# Altium schematic symbol library ICs_Control.SchLib: 37 symbols (part 5 of 6)
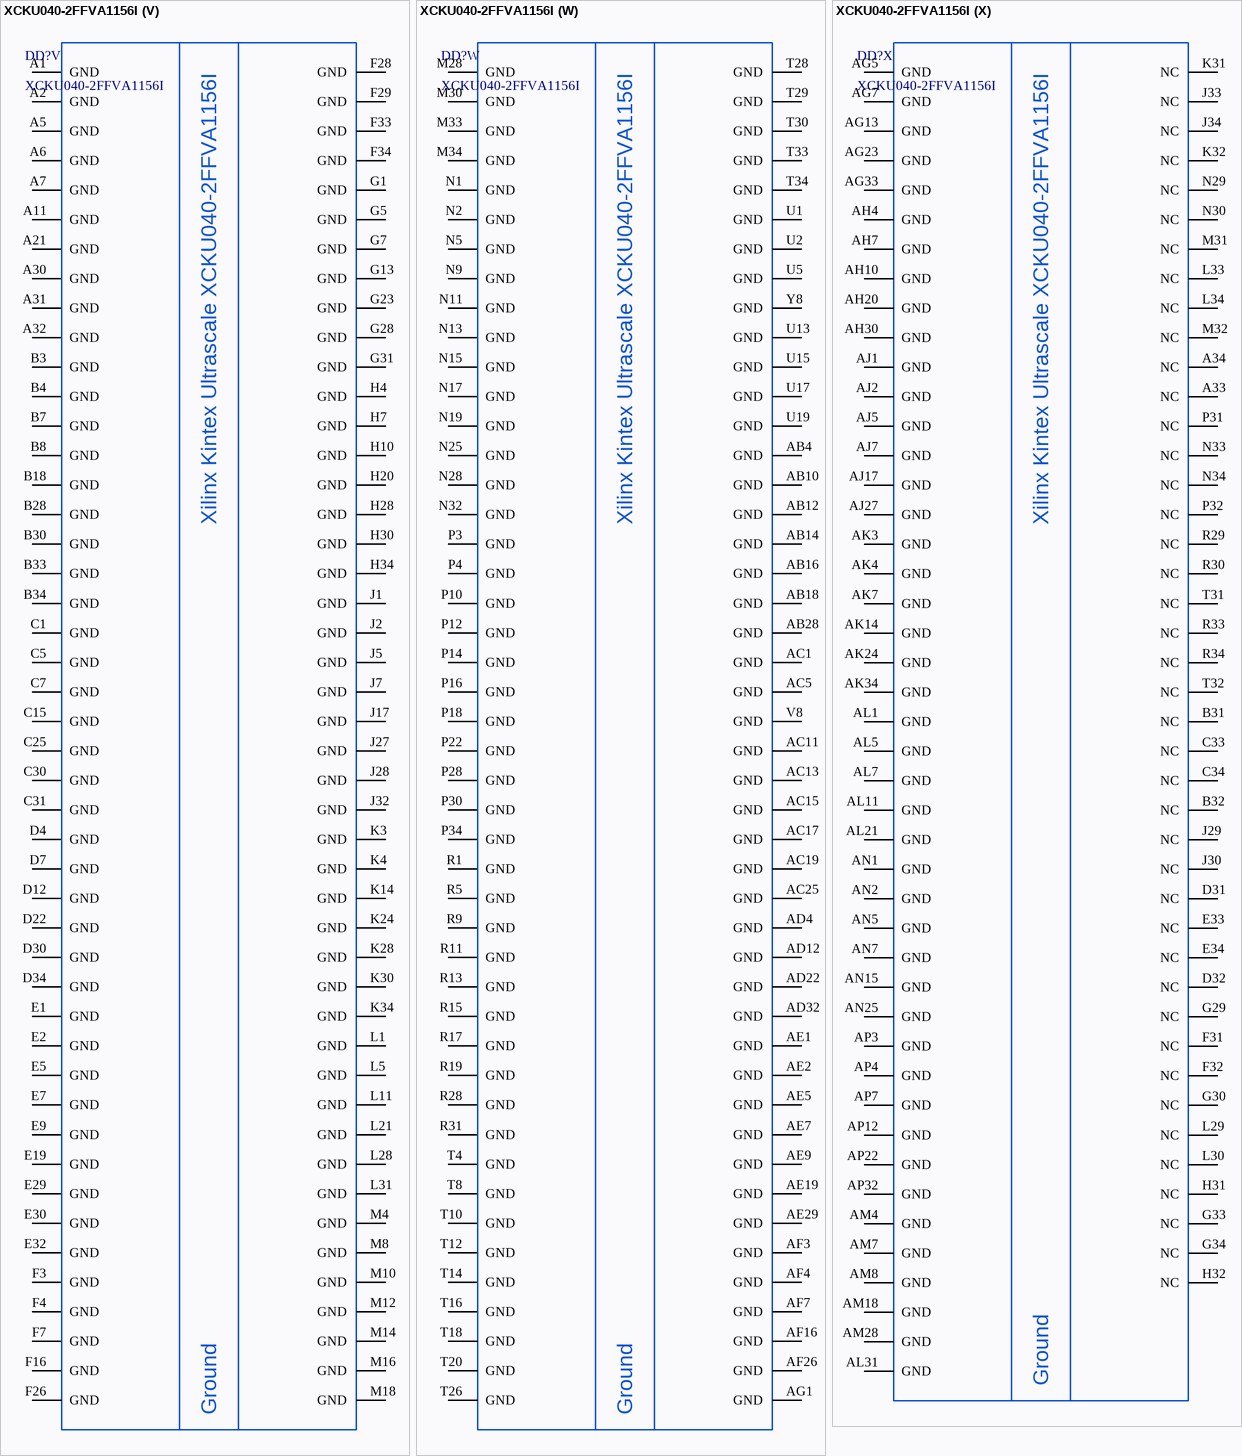
[diagram p81: symbol XCKU040-2FFVA1156I]

## XCKU040-2FFVA1156I
designator DD?
Kintex Ultrascale FPGA, 520 User I/Os, 1156-Ball BGA, 20 GTH; Manufacturer: Xilinx; ItemType: IC; Speed Grade: -2; PartNumber: XCKU040-2FFVA1156I; Package: FFVA1156; Marking: XCKU040; ItemSubType: FPGA; Mounting: SMD
footprint FFVA1156_XCKU040 (BGA, 1156-Leads, Body 35,00x35,00mmx3,42mm, Pitch 1,00mm)
part A pins: AA7 D02_0 (io), AA9 CCLK_0 (out), AB7 D01_DIN_0 (io), AC7 D00_MOSI_0 (io), AC9 TCK_0 (in), AD7 VBATT (power), K7 M0_0 (in), L7 M1_0 (in), M7 M2_0 (in), N7 DONE_0 (out), P7 POR_OVERRIDE (io), R7 PUDC_B_0 (io), T7 PROGRAM_B_0 (in), U7 RDWR_FCS_B_0 (out), U9 TDO_0 (out), U11 GNDADC (power), U12 VCCADC (power), V7 INIT_B_0 (in), V9 TDI_0 (in), V11 VREFN (in), V12 VP (in), W7 CFGBVS_0 (in), W9 TMS_0 (in), W11 VN (in), W12 VREFP (in), Y7 D03_0 (io), Y11 DXN (in), Y12 DXP (in)
part B pins: AD20 IO_L3P_T0L_N4_AD15P_44 (io), AD21 IO_L1P_T0L_N0_DBC_44 (io), AD23 VREF_44 (io), AD24 IO_T0U_N12_VRP_44 (io), AE20 IO_L3N_T0L_N5_AD15N_44 (io), AE21 IO_L1N_T0L_N1_DBC_44 (io), AE22 IO_L5P_T0U_N8_AD14P_44 (io), AE23 IO_L5N_T0U_N9_AD14N_44 (io), AE25 IO_L7P_T1L_N0_QBC_AD13P_44 (io), AE26 IO_L7N_T1L_N1_QBC_AD13N_44 (io), AF20 IO_L2P_T0L_N2_44 (io), AF22 IO_L6P_T0U_N10_AD6P_44 (io), AF23 IO_L8P_T1L_N2_AD5P_44 (io), AF24 IO_L8N_T1L_N3_AD5N_44 (io), AF25 IO_T1U_N12_44 (io), AG20 IO_L2N_T0L_N3_44 (io), AG21 IO_L4P_T0U_N6_DBC_AD7P_44 (io), AG22 IO_L6N_T0U_N11_AD6N_44 (io), AG24 IO_L9P_T1L_N4_AD12P_44 (io), AG25 IO_L9N_T1L_N5_AD12N_44 (io), AH21 IO_L4N_T0U_N7_DBC_AD7N_44 (io), AH22 IO_L12P_T1U_N10_GC_44 (io), AH23 IO_L12N_T1U_N11_GC_44 (io), AH24 IO_L10P_T1U_N6_QBC_AD4P_44 (io), AJ20 IO_L16P_T2U_N6_QBC_AD3P_44 (io), AJ21 IO_L13P_T2L_N0_GC_QBC_44 (io), AJ23 IO_L11P_T1U_N8_GC_44 (io), AJ24 IO_L11N_T1U_N9_GC_44 (io), AJ25 IO_L10N_T1U_N7_QBC_AD4N_44 (io), AK20 IO_L16N_T2U_N7_QBC_AD3N_44 (io), AK21 IO_L13N_T2L_N1_GC_QBC_44 (io), AK22 IO_L14P_T2L_N2_GC_44 (io), AK23 IO_L14N_T2L_N3_GC_44 (io), AK25 IO_T2U_N12_44 (io), AL20 IO_L15P_T2L_N4_AD11P_44 (io), AL22 IO_L17P_T2U_N8_AD10P_44 (io), AL23 IO_L17N_T2U_N9_AD10N_44 (io), AL24 IO_L18P_T2U_N10_AD2P_44 (io), AL25 IO_L18N_T2U_N11_AD2N_44 (io), AM20 IO_L15N_T2L_N5_AD11N_44 (io), AM21 IO_L19P_T3L_N0_DBC_AD9P_44 (io), AM22 IO_L20P_T3L_N2_AD1P_44 (io), AM24 IO_L21P_T3L_N4_AD8P_44 (io), AM25 IO_T3U_N12_44 (io), AN21 IO_L19N_T3L_N1_DBC_AD9N_44 (io), AN22 IO_L20N_T3L_N3_AD1N_44 (io), AN23 IO_L24P_T3U_N10_44 (io), AN24 IO_L21N_T3L_N5_AD8N_44 (io), AP20 IO_L22P_T3U_N6_DBC_AD0P_44 (io), AP21 IO_L22N_T3U_N7_DBC_AD0N_44 (io), AP23 IO_L24N_T3U_N11_44 (io), AP24 IO_L23P_T3U_N8_44 (io), AP25 IO_L23N_T3U_N9_44 (io)
part C pins: AD14 IO_T3U_N12_45 (io), AD15 IO_L24N_T3U_N11_45 (io), AD16 IO_L24P_T3U_N10_45 (io), AD18 IO_L19N_T3L_N1_DBC_AD9N_45 (io), AD19 IO_L19P_T3L_N0_DBC_AD9P_45 (io), AE15 IO_L22N_T3U_N7_DBC_AD0N_45 (io), AE16 IO_L22P_T3U_N6_DBC_AD0P_45 (io), AE17 IO_L23P_T3U_N8_45 (io), AE18 IO_L21P_T3L_N4_AD8P_45 (io), AF14 IO_L20N_T3L_N3_AD1N_45 (io), AF15 IO_L20P_T3L_N2_AD1P_45 (io), AF17 IO_L23N_T3U_N9_45 (io), AF18 IO_L21N_T3L_N5_AD8N_45 (io), AF19 VREF_45 (io), AG14 IO_L18N_T2U_N11_AD2N_45 (io), AG15 IO_L18P_T2U_N10_AD2P_45 (io), AG16 IO_L15N_T2L_N5_AD11N_45 (io), AG17 IO_L15P_T2L_N4_AD11P_45 (io), AG19 IO_L17P_T2U_N8_AD10P_45 (io), AH14 IO_T2U_N12_45 (io), AH16 IO_L14P_T2L_N2_GC_45 (io), AH17 IO_L13N_T2L_N1_GC_QBC_45 (io), AH18 IO_L13P_T2L_N0_GC_QBC_45 (io), AH19 IO_L17N_T2U_N9_AD10N_45 (io), AJ14 IO_L16N_T2U_N7_QBC_AD3N_45 (io), AJ15 IO_L16P_T2U_N6_QBC_AD3P_45 (io), AJ16 IO_L14N_T2L_N3_GC_45 (io), AJ18 IO_L11P_T1U_N8_GC_45 (io), AJ19 IO_T1U_N12_45 (io), AK15 IO_L9P_T1L_N4_AD12P_45 (io), AK16 IO_L12N_T1U_N11_GC_45 (io), AK17 IO_L12P_T1U_N10_GC_45 (io), AK18 IO_L11N_T1U_N9_GC_45 (io), AL14 IO_L7P_T1L_N0_QBC_AD13P_45 (io), AL15 IO_L9N_T1L_N5_AD12N_45 (io), AL17 IO_L10N_T1U_N7_QBC_AD4N_45 (io), AL18 IO_L10P_T1U_N6_QBC_AD4P_45 (io), AL19 IO_L8P_T1L_N2_AD5P_45 (io), AM14 IO_L7N_T1L_N1_QBC_AD13N_45 (io), AM15 IO_L5N_T0U_N9_AD14N_45 (io), AM16 IO_L5P_T0U_N8_AD14P_45 (io), AM17 IO_L3P_T0L_N4_AD15P_45 (io), AM19 IO_L8N_T1L_N3_AD5N_45 (io), AN14 IO_L1P_T0L_N0_DBC_45 (io), AN16 IO_L3N_T0L_N5_AD15N_45 (io), AN17 IO_L4N_T0U_N7_DBC_AD7N_45 (io), AN18 IO_L4P_T0U_N6_DBC_AD7P_45 (io), AN19 IO_L2P_T0L_N2_45 (io), AP14 IO_L1N_T0L_N1_DBC_45 (io), AP15 IO_L6N_T0U_N11_AD6N_45 (io), AP16 IO_L6P_T0U_N10_AD6P_45 (io), AP18 IO_L2N_T0L_N3_45 (io), AP19 IO_T0U_N12_VRP_45 (io)
part D pins: AG26 IO_T0U_N12_VRP_46 (io), AG27 VREF_46 (io), AH26 IO_L1P_T0L_N0_DBC_46 (io), AH27 IO_L5P_T0U_N8_AD14P_46 (io), AH28 IO_L5N_T0U_N9_AD14N_46 (io), AH29 IO_T2U_N12_46 (io), AH31 IO_L17P_T2U_N8_AD10P_46 (io), AH32 IO_L17N_T2U_N9_AD10N_46 (io), AH33 IO_L16P_T2U_N6_QBC_AD3P_46 (io), AH34 IO_L18P_T2U_N10_AD2P_46 (io), AJ26 IO_L1N_T0L_N1_DBC_46 (io), AJ28 IO_L6P_T0U_N10_AD6P_46 (io), AJ29 IO_L13P_T2L_N0_GC_QBC_46 (io), AJ30 IO_L15P_T2L_N4_AD11P_46 (io), AJ31 IO_L15N_T2L_N5_AD11N_46 (io), AJ33 IO_L16N_T2U_N7_QBC_AD3N_46 (io), AJ34 IO_L18N_T2U_N11_AD2N_46 (io), AK26 IO_L3P_T0L_N4_AD15P_46 (io), AK27 IO_L3N_T0L_N5_AD15N_46 (io), AK28 IO_L6N_T0U_N11_AD6N_46 (io), AK30 IO_L13N_T2L_N1_GC_QBC_46 (io), AK31 IO_L14P_T2L_N2_GC_46 (io), AK32 IO_L14N_T2L_N3_GC_46 (io), AK33 IO_T3U_N12_46 (io), AL27 IO_L4P_T0U_N6_DBC_AD7P_46 (io), AL28 IO_L4N_T0U_N7_DBC_AD7N_46 (io), AL29 IO_L11P_T1U_N8_GC_46 (io), AL30 IO_L12P_T1U_N10_GC_46 (io), AL32 IO_L19P_T3L_N0_DBC_AD9P_46 (io), AL33 IO_L19N_T3L_N1_DBC_AD9N_46 (io), AL34 IO_L24P_T3U_N10_46 (io), AM26 IO_L2P_T0L_N2_46 (io), AM27 IO_L2N_T0L_N3_46 (io), AM29 IO_L11N_T1U_N9_GC_46 (io), AM30 IO_L12N_T1U_N11_GC_46 (io), AM31 IO_T1U_N12_46 (io), AM32 IO_L23P_T3U_N8_46 (io), AM34 IO_L24N_T3U_N11_46 (io), AN26 IO_L7P_T1L_N0_QBC_AD13P_46 (io), AN27 IO_L9P_T1L_N4_AD12P_46 (io), AN28 IO_L9N_T1L_N5_AD12N_46 (io), AN29 IO_L10P_T1U_N6_QBC_AD4P_46 (io), AN31 IO_L21P_T3L_N4_AD8P_46 (io), AN32 IO_L23N_T3U_N9_46 (io), AN33 IO_L20P_T3L_N2_AD1P_46 (io), AN34 IO_L22P_T3U_N6_DBC_AD0P_46 (io), AP26 IO_L7N_T1L_N1_QBC_AD13N_46 (io), AP28 IO_L8P_T1L_N2_AD5P_46 (io), AP29 IO_L8N_T1L_N3_AD5N_46 (io), AP30 IO_L10N_T1U_N7_QBC_AD4N_46 (io), AP31 IO_L21N_T3L_N5_AD8N_46 (io), AP33 IO_L20N_T3L_N3_AD1N_46 (io), AP34 IO_L22N_T3U_N7_DBC_AD0N_46 (io)
part E pins: AA20 IO_L9P_T1L_N4_AD12P_47 (io), AA22 IO_L7P_T1L_N0_QBC_AD13P_47 (io), AA23 IO_L11N_T1U_N9_GC_47 (io), AA24 IO_L12P_T1U_N10_GC_47 (io), AA25 IO_L12N_T1U_N11_GC_47 (io), AA27 IO_L5P_T0U_N8_AD14P_47 (io), AA28 IO_T0U_N12_VRP_47 (io), AB20 IO_L9N_T1L_N5_AD12N_47 (io), AB21 IO_L10P_T1U_N6_QBC_AD4P_47 (io), AB22 IO_L7N_T1L_N1_QBC_AD13N_47 (io), AB24 IO_L3P_T0L_N4_AD15P_47 (io), AB25 IO_L6P_T0U_N10_AD6P_47 (io), AB26 IO_L6N_T0U_N11_AD6N_47 (io), AB27 IO_L5N_T0U_N9_AD14N_47 (io), AC21 IO_L10N_T1U_N7_QBC_AD4N_47 (io), AC22 IO_L8P_T1L_N2_AD5P_47 (io), AC23 IO_L8N_T1L_N3_AD5N_47 (io), AC24 IO_L3N_T0L_N5_AD15N_47 (io), AC26 IO_L4P_T0U_N6_DBC_AD7P_47 (io), AC27 IO_L4N_T0U_N7_DBC_AD7N_47 (io), AD25 IO_L2P_T0L_N2_47 (io), AD26 IO_L2N_T0L_N3_47 (io), T22 IO_L17P_T2U_N8_AD10P_47 (io), T23 IO_L17N_T2U_N9_AD10N_47 (io), U21 IO_L15P_T2L_N4_AD11P_47 (io), U22 IO_L15N_T2L_N5_AD11N_47 (io), U24 IO_L20P_T3L_N2_AD1P_47 (io), U25 IO_L20N_T3L_N3_AD1N_47 (io), U26 IO_L22P_T3U_N6_DBC_AD0P_47 (io), U27 IO_L22N_T3U_N7_DBC_AD0N_47 (io), U29 IO_T3U_N12_47 (io), V21 IO_L18P_T2U_N10_AD2P_47 (io), V22 IO_L16P_T2U_N6_QBC_AD3P_47 (io), V23 IO_L16N_T2U_N7_QBC_AD3N_47 (io), V24 VREF_47 (io), V26 IO_L24P_T3U_N10_47 (io), V27 IO_L19P_T3L_N0_DBC_AD9P_47 (io), V28 IO_L19N_T3L_N1_DBC_AD9N_47 (io), V29 IO_L23P_T3U_N8_47 (io), W21 IO_L18N_T2U_N11_AD2N_47 (io), W23 IO_L13P_T2L_N0_GC_QBC_47 (io), W24 IO_L13N_T2L_N1_GC_QBC_47 (io), W25 IO_L14P_T2L_N2_GC_47 (io), W26 IO_L24N_T3U_N11_47 (io), W28 IO_L21P_T3L_N4_AD8P_47 (io), W29 IO_L23N_T3U_N9_47 (io), Y21 IO_T2U_N12_47 (io), Y22 IO_T1U_N12_47 (io), Y23 IO_L11P_T1U_N8_GC_47 (io), Y25 IO_L14N_T2L_N3_GC_47 (io), Y26 IO_L1P_T0L_N0_DBC_47 (io), Y27 IO_L1N_T0L_N1_DBC_47 (io), Y28 IO_L21N_T3L_N5_AD8N_47 (io)
part F pins: AA29 IO_L16P_T2U_N6_QBC_AD3P_48 (io), AA30 VREF_48 (io), AA32 IO_L13P_T2L_N0_GC_QBC_48 (io), AA33 IO_T2U_N12_48 (io), AA34 IO_L17P_T2U_N8_AD10P_48 (io), AB29 IO_L16N_T2U_N7_QBC_AD3N_48 (io), AB30 IO_L14P_T2L_N2_GC_48 (io), AB31 IO_L14N_T2L_N3_GC_48 (io), AB32 IO_L13N_T2L_N1_GC_QBC_48 (io), AB34 IO_L17N_T2U_N9_AD10N_48 (io), AC28 IO_L3P_T0L_N4_AD15P_48 (io), AC29 IO_T0U_N12_VRP_48 (io), AC31 IO_L12P_T1U_N10_GC_48 (io), AC32 IO_L12N_T1U_N11_GC_48 (io), AC33 IO_L18P_T2U_N10_AD2P_48 (io), AC34 IO_L15P_T2L_N4_AD11P_48 (io), AD28 IO_L3N_T0L_N5_AD15N_48 (io), AD29 IO_L5P_T0U_N8_AD14P_48 (io), AD30 IO_L11P_T1U_N8_GC_48 (io), AD31 IO_L11N_T1U_N9_GC_48 (io), AD33 IO_L18N_T2U_N11_AD2N_48 (io), AD34 IO_L15N_T2L_N5_AD11N_48 (io), AE27 IO_L1P_T0L_N0_DBC_48 (io), AE28 IO_L2P_T0L_N2_48 (io), AE30 IO_L5N_T0U_N9_AD14N_48 (io), AE31 IO_T1U_N12_48 (io), AE32 IO_L9P_T1L_N4_AD12P_48 (io), AE33 IO_L10P_T1U_N6_QBC_AD4P_48 (io), AF27 IO_L1N_T0L_N1_DBC_48 (io), AF28 IO_L2N_T0L_N3_48 (io), AF29 IO_L4P_T0U_N6_DBC_AD7P_48 (io), AF30 IO_L6P_T0U_N10_AD6P_48 (io), AF32 IO_L9N_T1L_N5_AD12N_48 (io), AF33 IO_L8P_T1L_N2_AD5P_48 (io), AF34 IO_L10N_T1U_N7_QBC_AD4N_48 (io), AG29 IO_L4N_T0U_N7_DBC_AD7N_48 (io), AG30 IO_L6N_T0U_N11_AD6N_48 (io), AG31 IO_L7P_T1L_N0_QBC_AD13P_48 (io), AG32 IO_L7N_T1L_N1_QBC_AD13N_48 (io), AG34 IO_L8N_T1L_N3_AD5N_48 (io), U34 IO_L23P_T3U_N8_48 (io), V31 IO_L24P_T3U_N10_48 (io), V32 IO_T3U_N12_48 (io), V33 IO_L21P_T3L_N4_AD8P_48 (io), V34 IO_L23N_T3U_N9_48 (io), W30 IO_L20P_T3L_N2_AD1P_48 (io), W31 IO_L24N_T3U_N11_48 (io), W33 IO_L19P_T3L_N0_DBC_AD9P_48 (io), W34 IO_L21N_T3L_N5_AD8N_48 (io), Y30 IO_L20N_T3L_N3_AD1N_48 (io), Y31 IO_L22P_T3U_N6_DBC_AD0P_48 (io), Y32 IO_L22N_T3U_N7_DBC_AD0N_48 (io), Y33 IO_L19N_T3L_N1_DBC_AD9N_48 (io)
part G pins: AD8 IO_L17N_T2U_N9_AD10N_64 (io), AD9 IO_L17P_T2U_N8_AD10P_64 (io), AD10 IO_L16P_T2U_N6_QBC_AD3P_64 (io), AD11 IO_L10P_T1U_N6_QBC_AD4P_64 (io), AD13 VREF_64 (io), AE8 IO_L15P_T2L_N4_AD11P_64 (io), AE10 IO_L16N_T2U_N7_QBC_AD3N_64 (io), AE11 IO_L10N_T1U_N7_QBC_AD4N_64 (io), AE12 IO_L9P_T1L_N4_AD12P_64 (io), AE13 IO_L7P_T1L_N0_QBC_AD13P_64 (io), AF8 IO_L15N_T2L_N5_AD11N_64 (io), AF9 IO_L14P_T2L_N2_GC_64 (io), AF10 IO_L13P_T2L_N0_GC_QBC_64 (io), AF12 IO_L9N_T1L_N5_AD12N_64 (io), AF13 IO_L7N_T1L_N1_QBC_AD13N_64 (io), AG9 IO_L14N_T2L_N3_GC_64 (io), AG10 IO_L13N_T2L_N1_GC_QBC_64 (io), AG11 IO_L12P_T1U_N10_GC_64 (io), AG12 IO_L11P_T1U_N8_GC_64 (io), AH8 IO_L18N_T2U_N11_AD2N_64 (io), AH9 IO_L18P_T2U_N10_AD2P_64 (io), AH11 IO_L12N_T1U_N11_GC_64 (io), AH12 IO_L11N_T1U_N9_GC_64 (io), AH13 IO_L8P_T1L_N2_AD5P_64 (io), AJ8 IO_L23N_T3U_N9_64 (io), AJ9 IO_L23P_T3U_N8_64 (io), AJ10 IO_T2U_N12_64 (io), AJ11 IO_T1U_N12_64 (io), AJ13 IO_L8N_T1L_N3_AD5N_64 (io), AK8 IO_L24P_T3U_N10_64 (io), AK10 IO_L21P_T3L_N4_AD8P_64 (io), AK11 IO_T0U_N12_64 (io), AK12 IO_L5P_T0U_N8_AD14P_64 (io), AK13 IO_L6P_T0U_N10_AD6P_64 (io), AL8 IO_L24N_T3U_N11_64 (io), AL9 IO_L21N_T3L_N5_AD8N_64 (io), AL10 IO_L19P_T3L_N0_DBC_AD9P_64 (io), AL12 IO_L5N_T0U_N9_AD14N_64 (io), AL13 IO_L6N_T0U_N11_AD6N_64 (io), AM9 IO_T3U_N12_64 (io), AM10 IO_L19N_T3L_N1_DBC_AD9N_64 (io), AM11 IO_L3P_T0L_N4_AD15P_64 (io), AM12 IO_L4P_T0U_N6_DBC_AD7P_64 (io), AN8 IO_L22P_T3U_N6_DBC_AD0P_64 (io), AN9 IO_L20P_T3L_N2_AD1P_64 (io), AN11 IO_L3N_T0L_N5_AD15N_64 (io), AN12 IO_L4N_T0U_N7_DBC_AD7N_64 (io), AN13 IO_L2P_T0L_N2_64 (io), AP8 IO_L22N_T3U_N7_DBC_AD0N_64 (io), AP9 IO_L20N_T3L_N3_AD1N_64 (io), AP10 IO_L1N_T0L_N1_DBC_64 (io), AP11 IO_L1P_T0L_N0_DBC_64 (io), AP13 IO_L2N_T0L_N3_64 (io)
part H pins: G25 IO_L2P_T0L_N2_FOE_B_65 (io), G26 IO_L2N_T0L_N3_FWE_FCS2_B_65 (io), G27 IO_L1N_T0L_N1_DBC_RS1_65 (io), H23 IO_T0U_N12_A28_65 (io), H24 IO_L6N_T0U_N11_AD6N_A21_65 (io), H26 IO_L5N_T0U_N9_AD14N_A23_65 (io), H27 IO_L1P_T0L_N0_DBC_RS0_65 (io), J21 VREF_65 (io), J23 IO_L6P_T0U_N10_AD6P_A20_65 (io), J24 IO_L4P_T0U_N6_DBC_AD7P_A24_65 (io), J25 IO_L4N_T0U_N7_DBC_AD7N_A25_65 (io), J26 IO_L5P_T0U_N8_AD14P_A22_65 (io), K20 IO_L24P_T3U_N10_EMCCLK_65 (io), K21 IO_L24N_T3U_N11_DOUT_CSO_B_65 (io), K22 IO_T3U_N12_PERSTN0_65 (io), K23 IO_L10N_T1U_N7_QBC_AD4N_A13_D29_65 (io), K25 IO_L9N_T1L_N5_AD12N_A15_D31_65 (io), K26 IO_L3P_T0L_N4_AD15P_A26_65 (io), K27 IO_L3N_T0L_N5_AD15N_A27_65 (io), L20 IO_L22N_T3U_N7_DBC_AD0N_D05_65 (io), L22 IO_L10P_T1U_N6_QBC_AD4P_A12_D28_65 (io), L23 IO_L8P_T1L_N2_AD5P_A16_65 (io), L24 IO_L8N_T1L_N3_AD5N_A17_65 (io), L25 IO_L9P_T1L_N4_AD12P_A14_D30_65 (io), L27 IO_L7N_T1L_N1_QBC_AD13N_A19_65 (io), M20 IO_L22P_T3U_N6_DBC_AD0P_D04_65 (io), M21 IO_L23N_T3U_N9_I2C_SDA_65 (io), M22 IO_L19N_T3L_N1_DBC_AD9N_D11_65 (io), M24 IO_L12N_T1U_N11_GC_A09_D25_65 (io), M25 IO_L11P_T1U_N8_GC_A10_D26_65 (io), M26 IO_L11N_T1U_N9_GC_A11_D27_65 (io), M27 IO_L7P_T1L_N0_QBC_AD13P_A18_65 (io), N21 IO_L23P_T3U_N8_I2C_SCLK_65 (io), N22 IO_L19P_T3L_N0_DBC_AD9P_D10_65 (io), N23 IO_T1U_N12_PERSTN1_65 (io), N24 IO_L12P_T1U_N10_GC_A08_D24_65 (io), N26 IO_L13N_T2L_N1_GC_QBC_A07_D23_65 (io), N27 IO_T2U_N12_CSI_ADV_B_65 (io), P20 IO_L20P_T3L_N2_AD1P_D08_65 (io), P21 IO_L20N_T3L_N3_AD1N_D09_65 (io), P23 IO_L18N_T2U_N11_AD2N_D13_65 (io), P24 IO_L14P_T2L_N2_GC_A04_D20_65 (io), P25 IO_L14N_T2L_N3_GC_A05_D21_65 (io), P26 IO_L13P_T2L_N0_GC_QBC_A06_D22_65 (io), R21 IO_L21P_T3L_N4_AD8P_D06_65 (io), R22 IO_L21N_T3L_N5_AD8N_D07_65 (io), R23 IO_L18P_T2U_N10_AD2P_D12_65 (io), R25 IO_L17P_T2U_N8_AD10P_D14_65 (io), R26 IO_L17N_T2U_N9_AD10N_D15_65 (io), R27 IO_L15N_T2L_N5_AD11N_A03_D19_65 (io), T24 IO_L16P_T2U_N6_QBC_AD3P_A00_D16_65 (io), T25 IO_L16N_T2U_N7_QBC_AD3N_A01_D17_65 (io), T27 IO_L15P_T2L_N4_AD11P_A02_D18_65 (io)
part I pins: A8 IO_T0U_N12_VRP_66 (io), A9 IO_L2N_T0L_N3_66 (io), A10 IO_L4N_T0U_N7_DBC_AD7N_66 (io), A12 IO_L23N_T3U_N9_66 (io), A13 IO_L23P_T3U_N8_66 (io), B9 IO_L2P_T0L_N2_66 (io), B10 IO_L4P_T0U_N6_DBC_AD7P_66 (io), B11 IO_L21N_T3L_N5_AD8N_66 (io), B12 IO_L20N_T3L_N3_AD1N_66 (io), C8 IO_L3N_T0L_N5_AD15N_66 (io), C9 IO_L5N_T0U_N9_AD14N_66 (io), C11 IO_L21P_T3L_N4_AD8P_66 (io), C12 IO_L20P_T3L_N2_AD1P_66 (io), C13 IO_L24N_T3U_N11_66 (io), D8 IO_L3P_T0L_N4_AD15P_66 (io), D9 IO_L5P_T0U_N8_AD14P_66 (io), D10 IO_L6N_T0U_N11_AD6N_66 (io), D11 IO_L19N_T3L_N1_DBC_AD9N_66 (io), D13 IO_L24P_T3U_N10_66 (io), E8 IO_L1N_T0L_N1_DBC_66 (io), E10 IO_L6P_T0U_N10_AD6P_66 (io), E11 IO_L19P_T3L_N0_DBC_AD9P_66 (io), E12 IO_T3U_N12_66 (io), E13 IO_L22N_T3U_N7_DBC_AD0N_66 (io), F8 IO_L1P_T0L_N0_DBC_66 (io), F9 IO_L11N_T1U_N9_GC_66 (io), F10 IO_L12N_T1U_N11_GC_66 (io), F12 IO_T2U_N12_66 (io), F13 IO_L22P_T3U_N6_DBC_AD0P_66 (io), G9 IO_L11P_T1U_N8_GC_66 (io), G10 IO_L12P_T1U_N10_GC_66 (io), G11 IO_L13N_T2L_N1_GC_QBC_66 (io), G12 IO_L14N_T2L_N3_GC_66 (io), H8 IO_L9N_T1L_N5_AD12N_66 (io), H9 IO_L8N_T1L_N3_AD5N_66 (io), H11 IO_L13P_T2L_N0_GC_QBC_66 (io), H12 IO_L14P_T2L_N2_GC_66 (io), H13 IO_L18N_T2U_N11_AD2N_66 (io), J8 IO_L9P_T1L_N4_AD12P_66 (io), J9 IO_L8P_T1L_N2_AD5P_66 (io), J10 IO_L10N_T1U_N7_QBC_AD4N_66 (io), J11 IO_L15N_T2L_N5_AD11N_66 (io), J13 IO_L18P_T2U_N10_AD2P_66 (io), K8 IO_L7N_T1L_N1_QBC_AD13N_66 (io), K10 IO_L10P_T1U_N6_QBC_AD4P_66 (io), K11 IO_L15P_T2L_N4_AD11P_66 (io), K12 IO_L17N_T2U_N9_AD10N_66 (io), K13 IO_L16N_T2U_N7_QBC_AD3N_66 (io), L8 IO_L7P_T1L_N0_QBC_AD13P_66 (io), L9 IO_T1U_N12_66 (io), L10 VREF_66 (io), L12 IO_L17P_T2U_N8_AD10P_66 (io), L13 IO_L16P_T2U_N6_QBC_AD3P_66 (io)
part J pins: A20 IO_L17N_T2U_N9_AD10N_67 (io), A22 IO_T2U_N12_67 (io), A23 IO_T1U_N12_67 (io), A24 IO_L10N_T1U_N7_QBC_AD4N_67 (io), A25 IO_L8N_T1L_N3_AD5N_67 (io), A27 IO_L6P_T0U_N10_AD6P_67 (io), A28 IO_L6N_T0U_N11_AD6N_67 (io), A29 IO_L4N_T0U_N7_DBC_AD7N_67 (io), B20 IO_L17P_T2U_N8_AD10P_67 (io), B21 IO_L15P_T2L_N4_AD11P_67 (io), B22 IO_L15N_T2L_N5_AD11N_67 (io), B24 IO_L10P_T1U_N6_QBC_AD4P_67 (io), B25 IO_L8P_T1L_N2_AD5P_67 (io), B26 IO_L9N_T1L_N5_AD12N_67 (io), B27 IO_L2N_T0L_N3_67 (io), B29 IO_L4P_T0U_N6_DBC_AD7P_67 (io), C21 IO_L16P_T2U_N6_QBC_AD3P_67 (io), C22 IO_L16N_T2U_N7_QBC_AD3N_67 (io), C23 IO_L13N_T2L_N1_GC_QBC_67 (io), C24 IO_L12N_T1U_N11_GC_67 (io), C26 IO_L9P_T1L_N4_AD12P_67 (io), C27 IO_L2P_T0L_N2_67 (io), C28 IO_L5N_T0U_N9_AD14N_67 (io), C29 IO_T0U_N12_VRP_67 (io), D20 IO_L18P_T2U_N10_AD2P_67 (io), D21 IO_L18N_T2U_N11_AD2N_67 (io), D23 IO_L13P_T2L_N0_GC_QBC_67 (io), D24 IO_L12P_T1U_N10_GC_67 (io), D25 IO_L11N_T1U_N9_GC_67 (io), D26 IO_L7N_T1L_N1_QBC_AD13N_67 (io), D28 IO_L5P_T0U_N8_AD14P_67 (io), D29 IO_L3N_T0L_N5_AD15N_67 (io), E20 IO_L20P_T3L_N2_AD1P_67 (io), E21 IO_L20N_T3L_N3_AD1N_67 (io), E22 IO_L14P_T2L_N2_GC_67 (io), E23 IO_L14N_T2L_N3_GC_67 (io), E25 IO_L11P_T1U_N8_GC_67 (io), E26 IO_L7P_T1L_N0_QBC_AD13P_67 (io), E27 IO_L1N_T0L_N1_DBC_67 (io), E28 IO_L3P_T0L_N4_AD15P_67 (io), F20 IO_L22N_T3U_N7_DBC_AD0N_67 (io), F22 IO_L23N_T3U_N9_67 (io), F23 IO_L21P_T3L_N4_AD8P_67 (io), F24 IO_L21N_T3L_N5_AD8N_67 (io), F25 IO_L19N_T3L_N1_DBC_AD9N_67 (io), F27 IO_L1P_T0L_N0_DBC_67 (io), G20 IO_L22P_T3U_N6_DBC_AD0P_67 (io), G21 IO_L24N_T3U_N11_67 (io), G22 IO_L23P_T3U_N8_67 (io), G24 IO_L19P_T3L_N0_DBC_AD9P_67 (io), H21 IO_L24P_T3U_N10_67 (io), H22 IO_T3U_N12_67 (io), J20 VREF_67 (io)
part K pins: A14 IO_L1N_T0L_N1_DBC_68 (io), A15 IO_L3N_T0L_N5_AD15N_68 (io), A17 IO_T0U_N12_VRP_68 (io), A18 IO_L2N_T0L_N3_68 (io), A19 IO_L2P_T0L_N2_68 (io), B14 IO_L1P_T0L_N0_DBC_68 (io), B15 IO_L3P_T0L_N4_AD15P_68 (io), B16 IO_L5N_T0U_N9_AD14N_68 (io), B17 IO_L5P_T0U_N8_AD14P_68 (io), B19 IO_L4N_T0U_N7_DBC_AD7N_68 (io), C14 IO_L7N_T1L_N1_QBC_AD13N_68 (io), C16 IO_T1U_N12_68 (io), C17 IO_L6N_T0U_N11_AD6N_68 (io), C18 IO_L6P_T0U_N10_AD6P_68 (io), C19 IO_L4P_T0U_N6_DBC_AD7P_68 (io), D14 IO_L7P_T1L_N0_QBC_AD13P_68 (io), D15 IO_L8N_T1L_N3_AD5N_68 (io), D16 IO_L11N_T1U_N9_GC_68 (io), D18 IO_L10N_T1U_N7_QBC_AD4N_68 (io), D19 IO_L10P_T1U_N6_QBC_AD4P_68 (io), E15 IO_L8P_T1L_N2_AD5P_68 (io), E16 IO_L11P_T1U_N8_GC_68 (io), E17 IO_L12N_T1U_N11_GC_68 (io), E18 IO_L12P_T1U_N10_GC_68 (io), F14 IO_L9N_T1L_N5_AD12N_68 (io), F15 IO_L9P_T1L_N4_AD12P_68 (io), F17 IO_L14N_T2L_N3_GC_68 (io), F18 IO_L14P_T2L_N2_GC_68 (io), F19 IO_L16N_T2U_N7_QBC_AD3N_68 (io), G14 IO_L15N_T2L_N5_AD11N_68 (io), G15 IO_L15P_T2L_N4_AD11P_68 (io), G16 IO_L13N_T2L_N1_GC_QBC_68 (io), G17 IO_L13P_T2L_N0_GC_QBC_68 (io), G19 IO_L16P_T2U_N6_QBC_AD3P_68 (io), H14 IO_T2U_N12_68 (io), H16 IO_L17N_T2U_N9_AD10N_68 (io), H17 IO_L17P_T2U_N8_AD10P_68 (io), H18 IO_L18N_T2U_N11_AD2N_68 (io), H19 IO_L18P_T2U_N10_AD2P_68 (io), J14 IO_L19N_T3L_N1_DBC_AD9N_68 (io), J15 IO_L19P_T3L_N0_DBC_AD9P_68 (io), J16 IO_L23N_T3U_N9_68 (io), J18 IO_L22N_T3U_N7_DBC_AD0N_68 (io), J19 IO_L22P_T3U_N6_DBC_AD0P_68 (io), K15 IO_L21N_T3L_N5_AD8N_68 (io), K16 IO_L23P_T3U_N8_68 (io), K17 IO_L20N_T3L_N3_AD1N_68 (io), K18 IO_L20P_T3L_N2_AD1P_68 (io), L14 VREF_68 (io), L15 IO_L21P_T3L_N4_AD8P_68 (io), L17 IO_T3U_N12_68 (io), L18 IO_L24N_T3U_N11_68 (io), L19 IO_L24P_T3U_N10_68 (io)
part L pins: AD5 MGTREFCLK1N_224 (in), AD6 MGTREFCLK1P_224 (in), AF5 MGTREFCLK0N_224 (in), AF6 MGTREFCLK0P_224 (in), AJ3 MGTHRXN3_224 (in), AJ4 MGTHRXP3_224 (in), AK1 MGTHRXN2_224 (in), AK2 MGTHRXP2_224 (in), AK5 MGTHTXN3_224 (out), AK6 MGTHTXP3_224 (out), AL3 MGTHTXN2_224 (out), AL4 MGTHTXP2_224 (out), AM1 MGTHRXN1_224 (in), AM2 MGTHRXP1_224 (in), AM5 MGTHTXN1_224 (out), AM6 MGTHTXP1_224 (out), AN3 MGTHTXN0_224 (out), AN4 MGTHTXP0_224 (out), AP1 MGTHRXN0_224 (in), AP2 MGTHRXP0_224 (in)
part M pins: AB1 MGTHRXN3_225 (in), AB2 MGTHRXP3_225 (in), AB5 MGTREFCLK0N_225 (in), AB6 MGTREFCLK0P_225 (in), AC3 MGTHTXN3_225 (out), AC4 MGTHTXP3_225 (out), AD1 MGTHRXN2_225 (in), AD2 MGTHRXP2_225 (in), AE3 MGTHTXN2_225 (out), AE4 MGTHTXP2_225 (out), AF1 MGTHRXN1_225 (in), AF2 MGTHRXP1_225 (in), AG3 MGTHTXN1_225 (out), AG4 MGTHTXP1_225 (out), AH1 MGTHRXN0_225 (in), AH2 MGTHRXP0_225 (in), AH5 MGTHTXN0_225 (out), AH6 MGTHTXP0_225 (out), AP5 MGTRREF_R, AP6 MGTAVTTRCAL_R, Y5 MGTREFCLK1N_225 (in), Y6 MGTREFCLK1P_225 (in)
part N pins: AA3 MGTHTXN0_226 (out), AA4 MGTHTXP0_226 (out), P1 MGTHRXN3_226 (in), P2 MGTHRXP3_226 (in), R3 MGTHTXN3_226 (out), R4 MGTHTXP3_226 (out), T1 MGTHRXN2_226 (in), T2 MGTHRXP2_226 (in), T5 MGTREFCLK1N_226 (in), T6 MGTREFCLK1P_226 (in), U3 MGTHTXN2_226 (out), U4 MGTHTXP2_226 (out), V1 MGTHRXN1_226 (in), V2 MGTHRXP1_226 (in), V5 MGTREFCLK0N_226 (in), V6 MGTREFCLK0P_226 (in), W3 MGTHTXN1_226 (out), W4 MGTHTXP1_226 (out), Y1 MGTHRXN0_226 (in), Y2 MGTHRXP0_226 (in)
part O pins: F1 MGTHRXN3_227 (in), F2 MGTHRXP3_227 (in), G3 MGTHTXN3_227 (out), G4 MGTHTXP3_227 (out), H1 MGTHRXN2_227 (in), H2 MGTHRXP2_227 (in), J3 MGTHTXN2_227 (out), J4 MGTHTXP2_227 (out), K1 MGTHRXN1_227 (in), K2 MGTHRXP1_227 (in), L3 MGTHTXN1_227 (out), L4 MGTHTXP1_227 (out), M1 MGTHRXN0_227 (in), M2 MGTHRXP0_227 (in), M5 MGTREFCLK1N_227 (in), M6 MGTREFCLK1P_227 (in), N3 MGTHTXN0_227 (out), N4 MGTHTXP0_227 (out), P5 MGTREFCLK0N_227 (in), P6 MGTREFCLK0P_227 (in)
part P pins: A3 MGTHRXN3_228 (in), A4 MGTHRXP3_228 (in), B1 MGTHRXN2_228 (in), B2 MGTHRXP2_228 (in), B5 MGTHTXN3_228 (out), B6 MGTHTXP3_228 (out), C3 MGTHTXN2_228 (out), C4 MGTHTXP2_228 (out), D1 MGTHRXN1_228 (in), D2 MGTHRXP1_228 (in), D5 MGTHTXN1_228 (out), D6 MGTHTXP1_228 (out), E3 MGTHRXN0_228 (in), E4 MGTHRXP0_228 (in), F5 MGTHTXN0_228 (out), F6 MGTHTXP0_228 (out), H5 MGTREFCLK1N_228 (in), H6 MGTREFCLK1P_228 (in), K5 MGTREFCLK0N_228 (in), K6 MGTREFCLK0P_228 (in)
part Q pins: AA6 MGTVCCAUX_R (power), AC2 MGTAVTT_R (power), AC6 MGTAVCC_R (power), AD3 MGTAVTT_R (power), AE6 MGTAVCC_R (power), AG2 MGTAVTT_R (power), AG6 MGTAVCC_R (power), AH3 MGTAVTT_R (power), AJ6 MGTAVCC_R (power), AL2 MGTAVTT_R (power), AL6 MGTAVCC_R (power), AM3 MGTAVTT_R (power), AN6 MGTAVCC_R (power), C2 MGTAVTT_R (power), C6 MGTAVCC_R (power), C32 MGTAVTT_L (power), D3 MGTAVTT_R (power), D33 MGTAVTT_L (power), E6 MGTAVCC_R (power), E31 MGTAVCC_L (power), F30 MGTAVCC_L (power), G2 MGTAVTT_R (power), G6 MGTAVCC_R (power), G32 MGTAVTT_L (power), H3 MGTAVTT_R (power), H29 MGTAVCC_L (power), H33 MGTAVTT_L (power), J6 MGTAVCC_R (power), J31 MGTAVCC_L (power), K29 MGTVCCAUX_L (power), K33 MGTAVTT_L (power), L2 MGTAVTT_R (power), L6 MGTAVCC_R (power), L32 MGTAVTT_L (power), M3 MGTAVTT_R (power), M29 MGTVCCAUX_L (power), N6 MGTAVCC_R (power), N31 MGTAVCC_L (power), P29 MGTAVCC_L (power), P33 MGTAVTT_L (power), R2 MGTAVTT_R (power), R6 MGTVCCAUX_R (power), R32 MGTAVTT_L (power), T3 MGTAVTT_R (power), U6 MGTAVCC_R (power), W2 MGTAVTT_R (power), W6 MGTAVCC_R (power), Y3 MGTAVTT_R (power)
part R pins: AA26 VCCO_47 (power), AB9 VCCO_0 (power), AB23 VCCO_47 (power), AB33 VCCO_48 (power), AC20 VCCO_47 (power), AC30 VCCO_48 (power), AD17 VCCO_45 (power), AD27 VCCO_48 (power), AE14 VCCO_45 (power), AE24 VCCO_44 (power), AE34 VCCO_48 (power), AF21 VCCO_44 (power), AF31 VCCO_48 (power), AG18 VCCO_45 (power), AG28 VCCO_46 (power), AH15 VCCO_45 (power), AH25 VCCO_44 (power), AJ22 VCCO_44 (power), AJ32 VCCO_46 (power), AK19 VCCO_45 (power), AK29 VCCO_46 (power), AL16 VCCO_45 (power), AL26 VCCO_46 (power), AM23 VCCO_44 (power), AM33 VCCO_46 (power), AN20 VCCO_44 (power), AN30 VCCO_46 (power), AP17 VCCO_45 (power), AP27 VCCO_46 (power), T21 VCCO_47 (power), U28 VCCO_47 (power), V25 VCCO_47 (power), W22 VCCO_47 (power), W32 VCCO_48 (power), Y9 VCCO_0 (power), Y29 VCCO_48 (power)
part S pins: A16 VCCO_68 (power), A26 VCCO_67 (power), AF11 VCCO_64 (power), AG8 VCCO_64 (power), AJ12 VCCO_64 (power), AK9 VCCO_64 (power), AM13 VCCO_64 (power), AN10 VCCO_64 (power), B13 VCCO_66 (power), B23 VCCO_67 (power), C10 VCCO_66 (power), C20 VCCO_67 (power), D17 VCCO_68 (power), D27 VCCO_67 (power), E14 VCCO_68 (power), E24 VCCO_67 (power), F11 VCCO_66 (power), F21 VCCO_67 (power), G8 VCCO_66 (power), G18 VCCO_68 (power), H15 VCCO_68 (power), H25 VCCO_65 (power), J12 VCCO_66 (power), J22 VCCO_65 (power), K9 VCCO_66 (power), K19 VCCO_68 (power), L16 VCCO_68 (power), L26 VCCO_65 (power), M23 VCCO_65 (power), N20 VCCO_65 (power), P27 VCCO_65 (power), R24 VCCO_65 (power)
part T pins: AA10 VCCINT (power), AA12 VCCINT (power), AA14 VCCINT (power), AA16 VCCINT (power), AB11 VCCINT (power), AB13 VCCINT (power), AB15 VCCINT (power), AC10 VCCINT (power), AC12 VCCINT (power), AC14 VCCINT (power), AC16 VCCINT (power), M9 VCCINT (power), M11 VCCINT (power), M13 VCCINT (power), M15 VCCINT (power), N8 VCCINT (power), N10 VCCINT (power), N12 VCCINT (power), N14 VCCINT (power), N16 VCCINT (power), P9 VCCINT (power), P11 VCCINT (power), P13 VCCINT (power), P15 VCCINT (power), R8 VCCINT (power), R10 VCCINT (power), R12 VCCINT (power), R14 VCCINT (power), R16 VCCINT (power), T9 VCCINT (power), T11 VCCINT (power), T13 VCCINT (power), T15 VCCINT (power), T17 VCCINT (power), U10 VCCINT (power), U14 VCCINT (power), U16 VCCINT (power), V13 VCCINT (power), V15 VCCINT (power), W10 VCCINT (power), W14 VCCINT (power), W16 VCCINT (power), Y13 VCCINT (power), Y15 VCCINT (power)
part U pins: AA8 VCCAUX (power), AA18 VCCBRAM (power), AB17 VCCBRAM (power), AB19 VCCAUX_IO (power), AC8 VCCAUX (power), AC18 VCCAUX_IO (power), M17 VCCINT_IO (power), M19 VCCAUX_IO (power), N18 VCCAUX_IO (power), P17 VCCINT_IO (power), P19 VCCAUX_IO (power), R18 VCCINT_IO (power), R20 VCCAUX_IO (power), T19 VCCAUX_IO (power), U8 VCCAUX (power), U18 VCCINT_IO (power), U20 VCCAUX_IO (power), V17 VCCBRAM (power), V19 VCCAUX_IO (power), W8 VCCAUX (power), W18 VCCINT_IO (power), W20 VCCAUX_IO (power), Y17 VCCBRAM (power), Y19 VCCAUX_IO (power)
part V pins: A1 GND (power), A2 GND (power), A5 GND (power), A6 GND (power), A7 GND (power), A11 GND (power), A21 GND (power), A30 GND (power), A31 GND (power), A32 GND (power), B3 GND (power), B4 GND (power), B7 GND (power), B8 GND (power), B18 GND (power), B28 GND (power), B30 GND (power), B33 GND (power), B34 GND (power), C1 GND (power), C5 GND (power), C7 GND (power), C15 GND (power), C25 GND (power), C30 GND (power), C31 GND (power), D4 GND (power), D7 GND (power), D12 GND (power), D22 GND (power), D30 GND (power), D34 GND (power), E1 GND (power), E2 GND (power), E5 GND (power), E7 GND (power), E9 GND (power), E19 GND (power), E29 GND (power), E30 GND (power), E32 GND (power), F3 GND (power), F4 GND (power), F7 GND (power), F16 GND (power), F26 GND (power), F28 GND (power), F29 GND (power), F33 GND (power), F34 GND (power), G1 GND (power), G5 GND (power), G7 GND (power), G13 GND (power), G23 GND (power), G28 GND (power), G31 GND (power), H4 GND (power), H7 GND (power), H10 GND (power), H20 GND (power), H28 GND (power), H30 GND (power), H34 GND (power), J1 GND (power), J2 GND (power), J5 GND (power), J7 GND (power), J17 GND (power), J27 GND (power), J28 GND (power), J32 GND (power), K3 GND (power), K4 GND (power), K14 GND (power), K24 GND (power), K28 GND (power), K30 GND (power), K34 GND (power), L1 GND (power), L5 GND (power), L11 GND (power), L21 GND (power), L28 GND (power), L31 GND (power), M4 GND (power), M8 GND (power), M10 GND (power), M12 GND (power), M14 GND (power), M16 GND (power), M18 GND (power)
part W pins: AB4 GND (power), AB10 GND (power), AB12 GND (power), AB14 GND (power), AB16 GND (power), AB18 GND (power), AB28 GND (power), AC1 GND (power), AC5 GND (power), AC11 GND (power), AC13 GND (power), AC15 GND (power), AC17 GND (power), AC19 GND (power), AC25 GND (power), AD4 GND (power), AD12 GND (power), AD22 GND (power), AD32 GND (power), AE1 GND (power), AE2 GND (power), AE5 GND (power), AE7 GND (power), AE9 GND (power), AE19 GND (power), AE29 GND (power), AF3 GND (power), AF4 GND (power), AF7 GND (power), AF16 GND (power), AF26 GND (power), AG1 GND (power), M28 GND (power), M30 GND (power), M33 GND (power), M34 GND (power), N1 GND (power), N2 GND (power), N5 GND (power), N9 GND (power), N11 GND (power), N13 GND (power), N15 GND (power), N17 GND (power), N19 GND (power), N25 GND (power), N28 GND (power), N32 GND (power), P3 GND (power), P4 GND (power), P10 GND (power), P12 GND (power), P14 GND (power), P16 GND (power), P18 GND (power), P22 GND (power), P28 GND (power), P30 GND (power), P34 GND (power), R1 GND (power), R5 GND (power), R9 GND (power), R11 GND (power), R13 GND (power), R15 GND (power), R17 GND (power), R19 GND (power), R28 GND (power), R31 GND (power), T4 GND (power), T8 GND (power), T10 GND (power), T12 GND (power), T14 GND (power), T16 GND (power), T18 GND (power), T20 GND (power), T26 GND (power), T28 GND (power), T29 GND (power), T30 GND (power), T33 GND (power), T34 GND (power), U1 GND (power), U2 GND (power), U5 GND (power), U13 GND (power), U15 GND (power), U17 GND (power), U19 GND (power), V8 GND (power), Y8 GND (power)
part X pins: A33 NC (hiz), A34 NC (hiz), AG5 GND (power), AG7 GND (power), AG13 GND (power), AG23 GND (power), AG33 GND (power), AH4 GND (power), AH7 GND (power), AH10 GND (power), AH20 GND (power), AH30 GND (power), AJ1 GND (power), AJ2 GND (power), AJ5 GND (power), AJ7 GND (power), AJ17 GND (power), AJ27 GND (power), AK3 GND (power), AK4 GND (power), AK7 GND (power), AK14 GND (power), AK24 GND (power), AK34 GND (power), AL1 GND (power), AL5 GND (power), AL7 GND (power), AL11 GND (power), AL21 GND (power), AL31 GND (power), AM4 GND (power), AM7 GND (power), AM8 GND (power), AM18 GND (power), AM28 GND (power), AN1 GND (power), AN2 GND (power), AN5 GND (power), AN7 GND (power), AN15 GND (power), AN25 GND (power), AP3 GND (power), AP4 GND (power), AP7 GND (power), AP12 GND (power), AP22 GND (power), AP32 GND (power), B31 NC (hiz), B32 NC (hiz), C33 NC (hiz), C34 NC (hiz), D31 NC (hiz), D32 NC (hiz), E33 NC (hiz), E34 NC (hiz), F31 NC (hiz), F32 NC (hiz), G29 NC (hiz), G30 NC (hiz), G33 NC (hiz), G34 NC (hiz), H31 NC (hiz), H32 NC (hiz), J29 NC (hiz), J30 NC (hiz), J33 NC (hiz), J34 NC (hiz), K31 NC (hiz), K32 NC (hiz), L29 NC (hiz), L30 NC (hiz), L33 NC (hiz), L34 NC (hiz), M31 NC (hiz), M32 NC (hiz), N29 NC (hiz), N30 NC (hiz), N33 NC (hiz), N34 NC (hiz), P31 NC (hiz), P32 NC (hiz), R29 NC (hiz), R30 NC (hiz), R33 NC (hiz), R34 NC (hiz), T31 NC (hiz), T32 NC (hiz)
part A text: Xilinx Kintex Ultrascale XCKU040-2FFVA1156I; BANK 0
part B text: Xilinx Kintex Ultrascale XCKU040-2FFVA1156I; BANK 44
part C text: Xilinx Kintex Ultrascale XCKU040-2FFVA1156I; BANK 45
part D text: Xilinx Kintex Ultrascale XCKU040-2FFVA1156I; BANK 46
part E text: Xilinx Kintex Ultrascale XCKU040-2FFVA1156I; BANK 47
part F text: Xilinx Kintex Ultrascale XCKU040-2FFVA1156I; BANK 48
part G text: Xilinx Kintex Ultrascale XCKU040-2FFVA1156I; BANK 64
part H text: Xilinx Kintex Ultrascale XCKU040-2FFVA1156I; BANK 65
part I text: Xilinx Kintex Ultrascale XCKU040-2FFVA1156I; BANK 66
part J text: Xilinx Kintex Ultrascale XCKU040-2FFVA1156I; BANK 67
part K text: Xilinx Kintex Ultrascale XCKU040-2FFVA1156I; BANK 68
part L text: Xilinx Kintex Ultrascale XCKU040-2FFVA1156I; BANK 224
part M text: Xilinx Kintex Ultrascale XCKU040-2FFVA1156I; BANK 225
part N text: Xilinx Kintex Ultrascale XCKU040-2FFVA1156I; BANK 226
part O text: Xilinx Kintex Ultrascale XCKU040-2FFVA1156I; BANK 227
part P text: Xilinx Kintex Ultrascale XCKU040-2FFVA1156I; BANK 228
part Q text: Xilinx Kintex Ultrascale XCKU040-2FFVA1156I; MGTH Power
part R text: Xilinx Kintex Ultrascale XCKU040-2FFVA1156I; BANK Power
part S text: Xilinx Kintex Ultrascale XCKU040-2FFVA1156I; BANK Power
part T text: Xilinx Kintex Ultrascale XCKU040-2FFVA1156I; Core Power
part U text: Xilinx Kintex Ultrascale XCKU040-2FFVA1156I; Sys Power
part V text: Xilinx Kintex Ultrascale XCKU040-2FFVA1156I; Ground
part W text: Xilinx Kintex Ultrascale XCKU040-2FFVA1156I; Ground
part X text: Xilinx Kintex Ultrascale XCKU040-2FFVA1156I; Ground

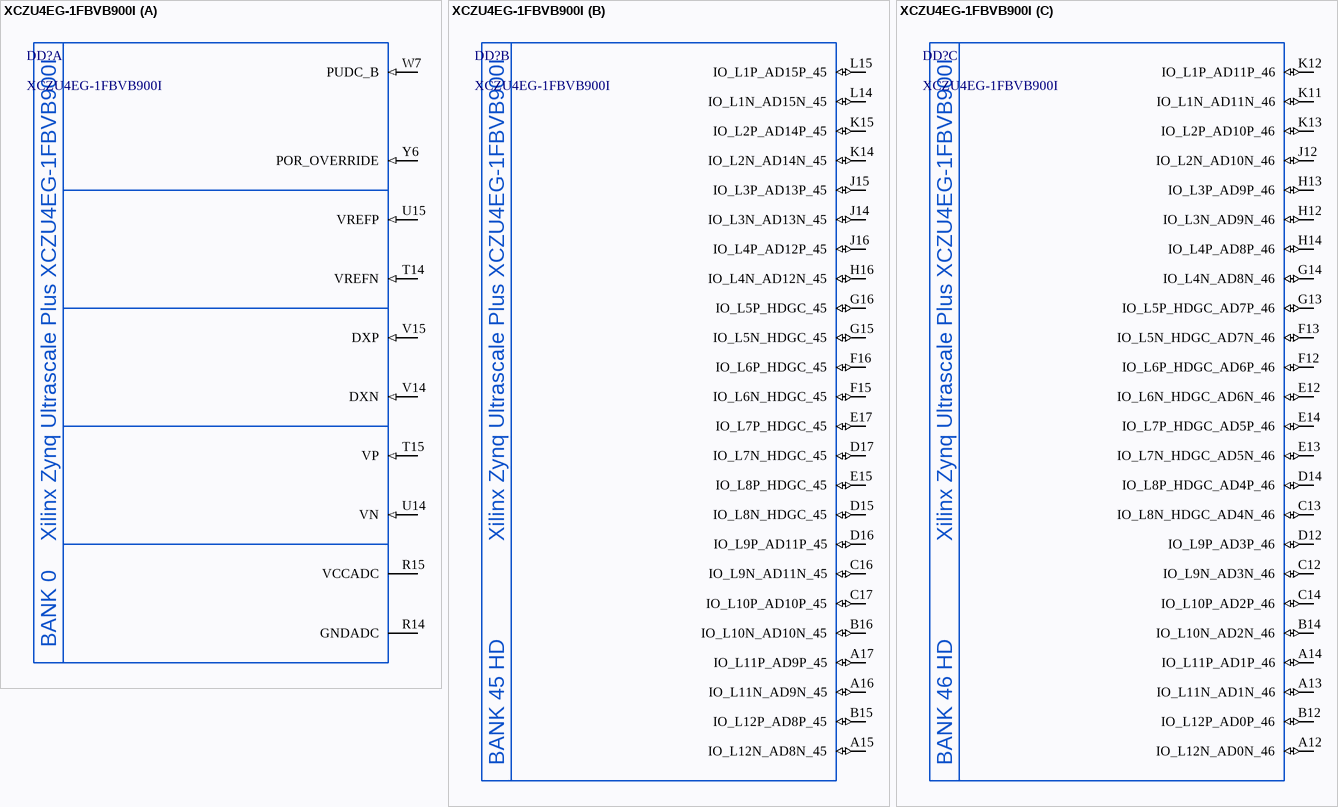
[diagram p63: symbol XCZU4EG-1FBVB900I]

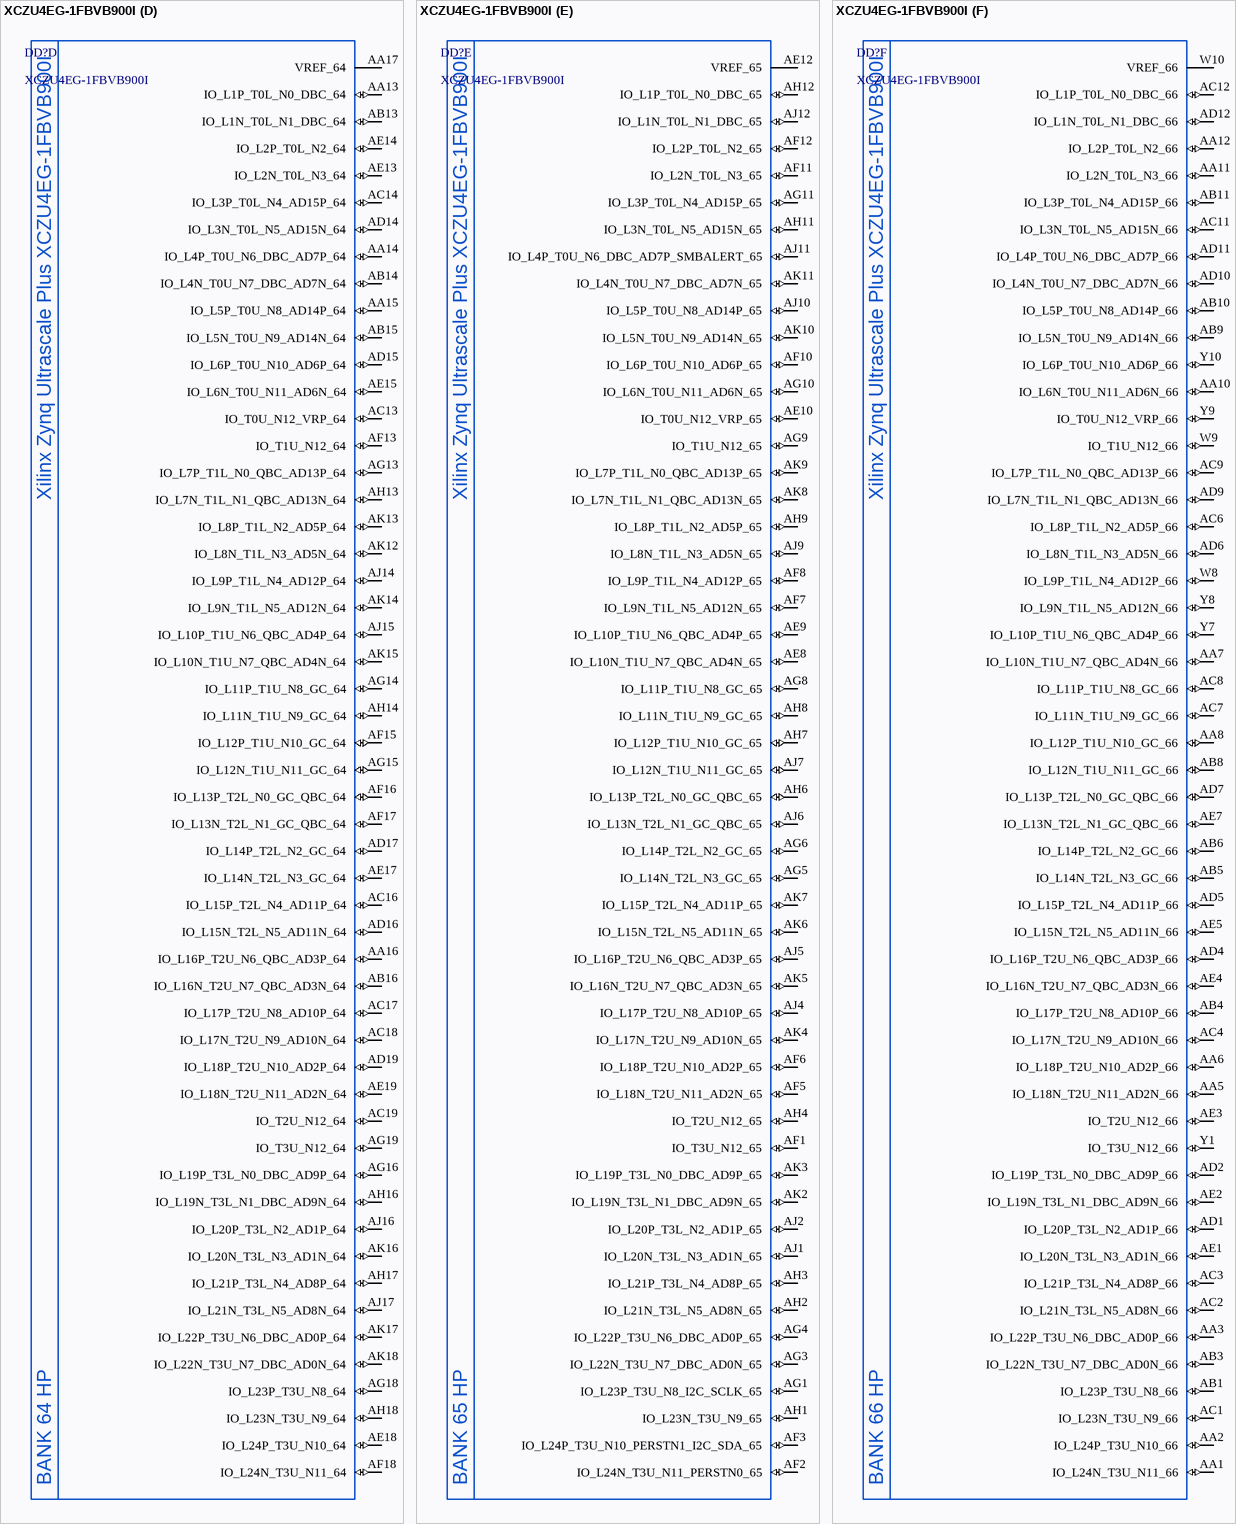
[diagram p64: symbol XCZU4EG-1FBVB900I]

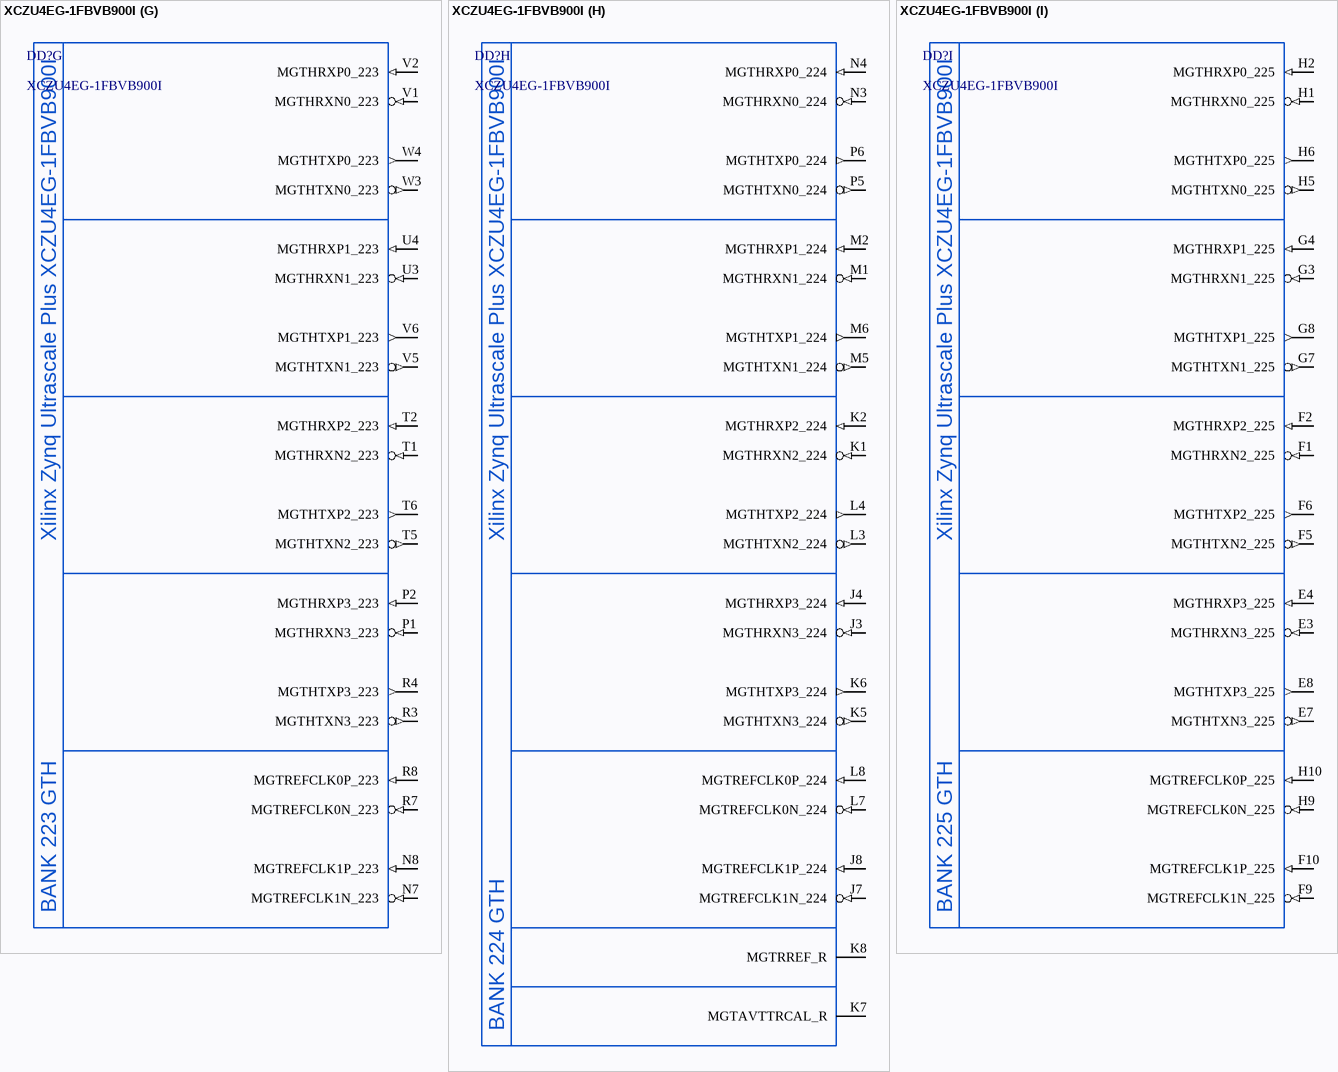
[diagram p65: symbol XCZU4EG-1FBVB900I]

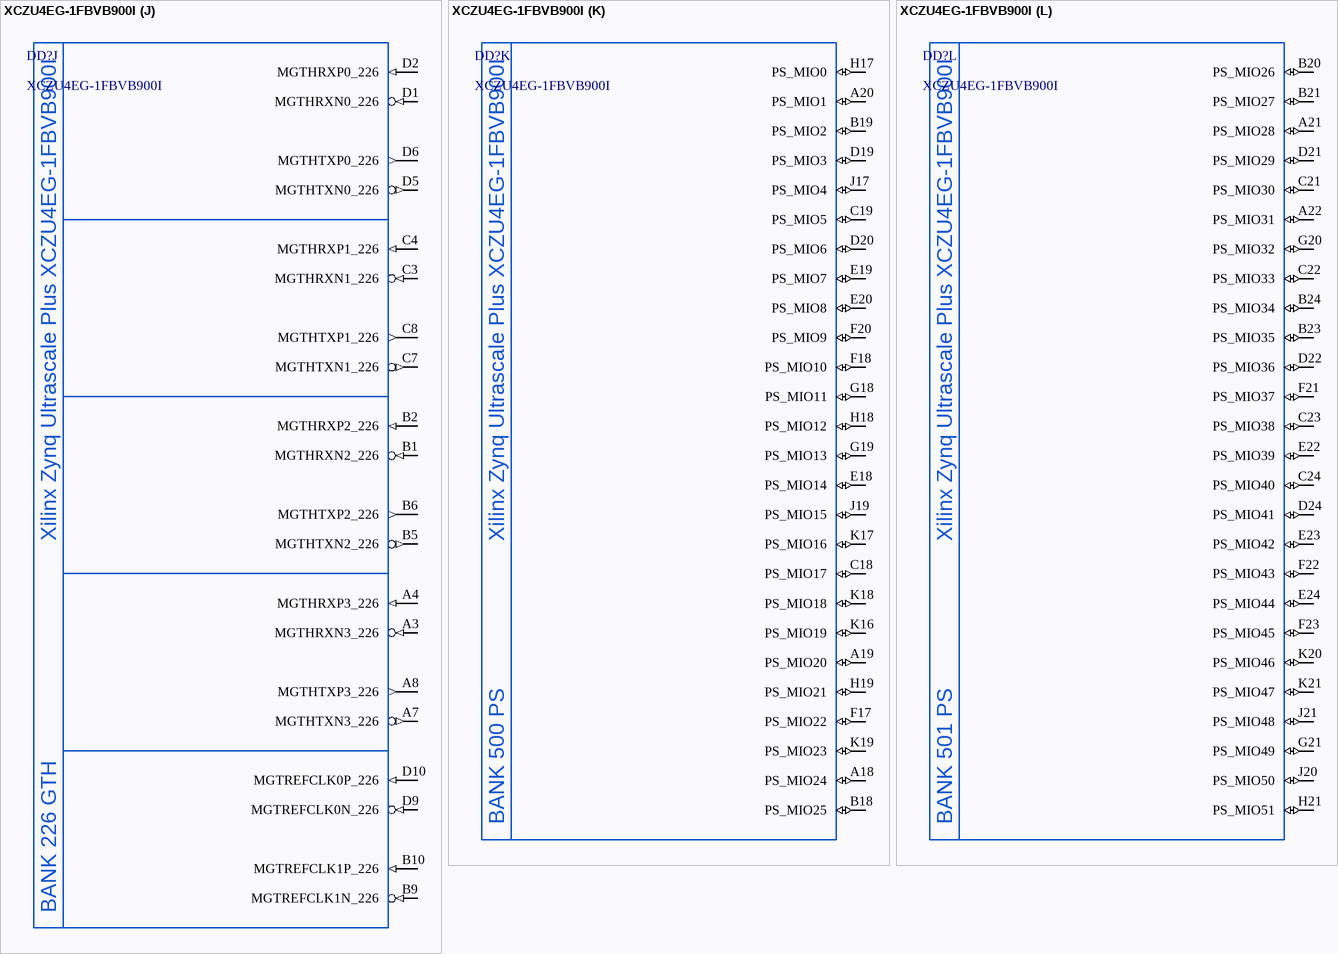
[diagram p66: symbol XCZU4EG-1FBVB900I]

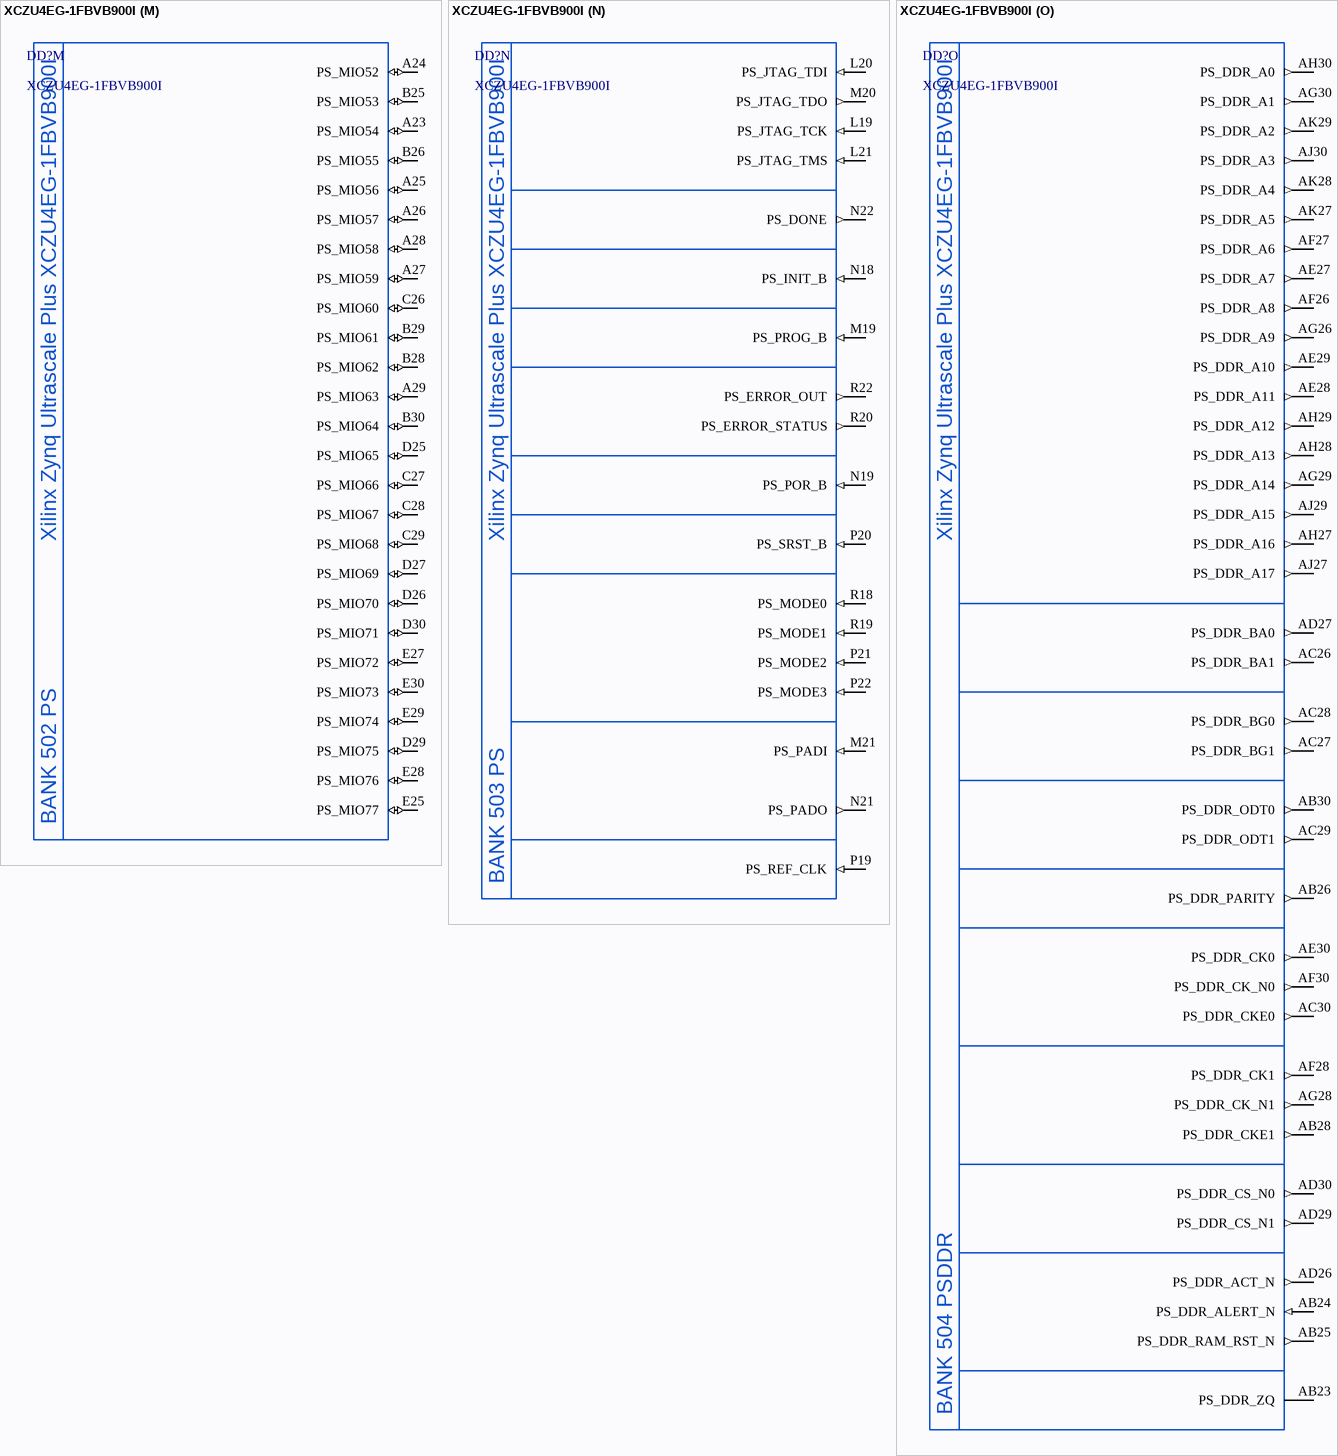
[diagram p67: symbol XCZU4EG-1FBVB900I]

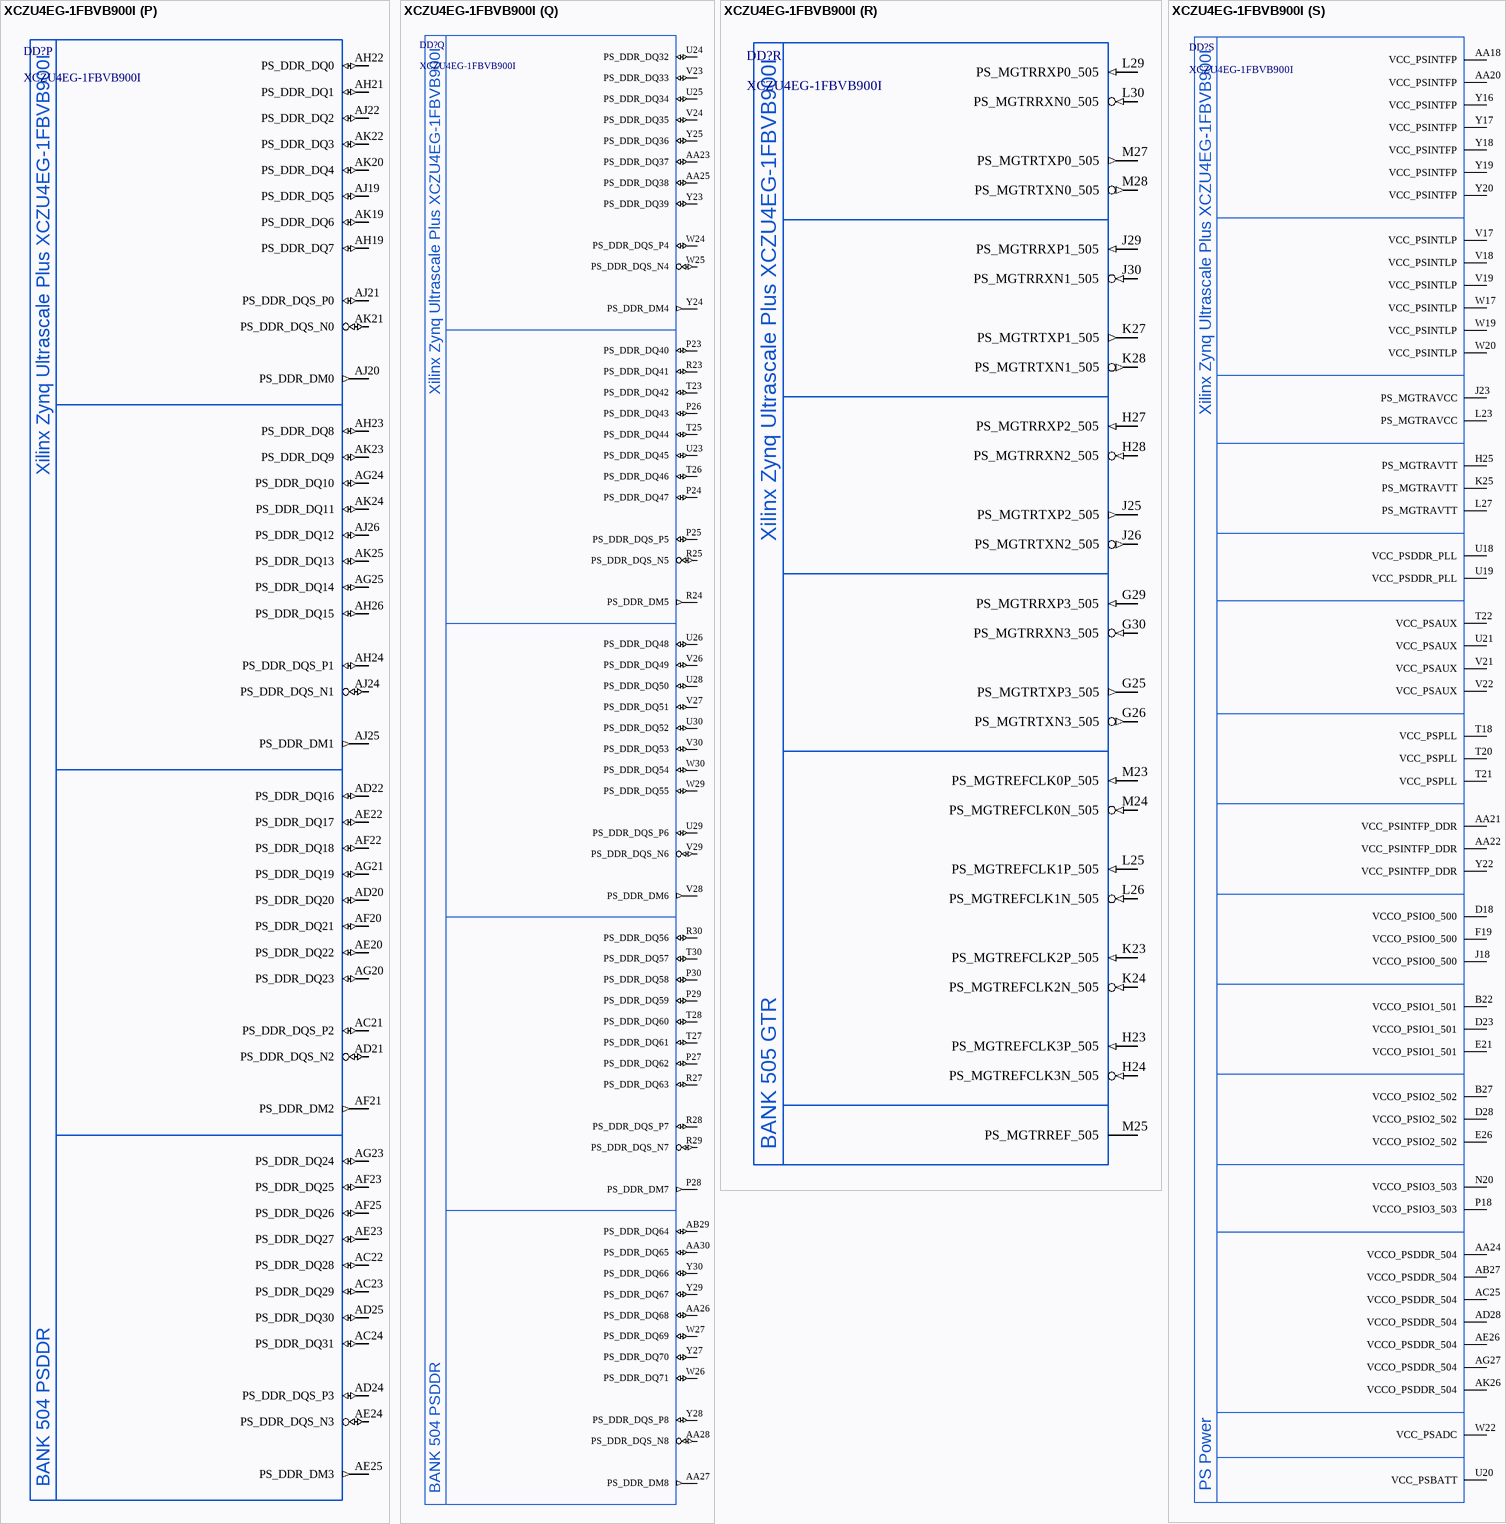
[diagram p68: symbol XCZU4EG-1FBVB900I]

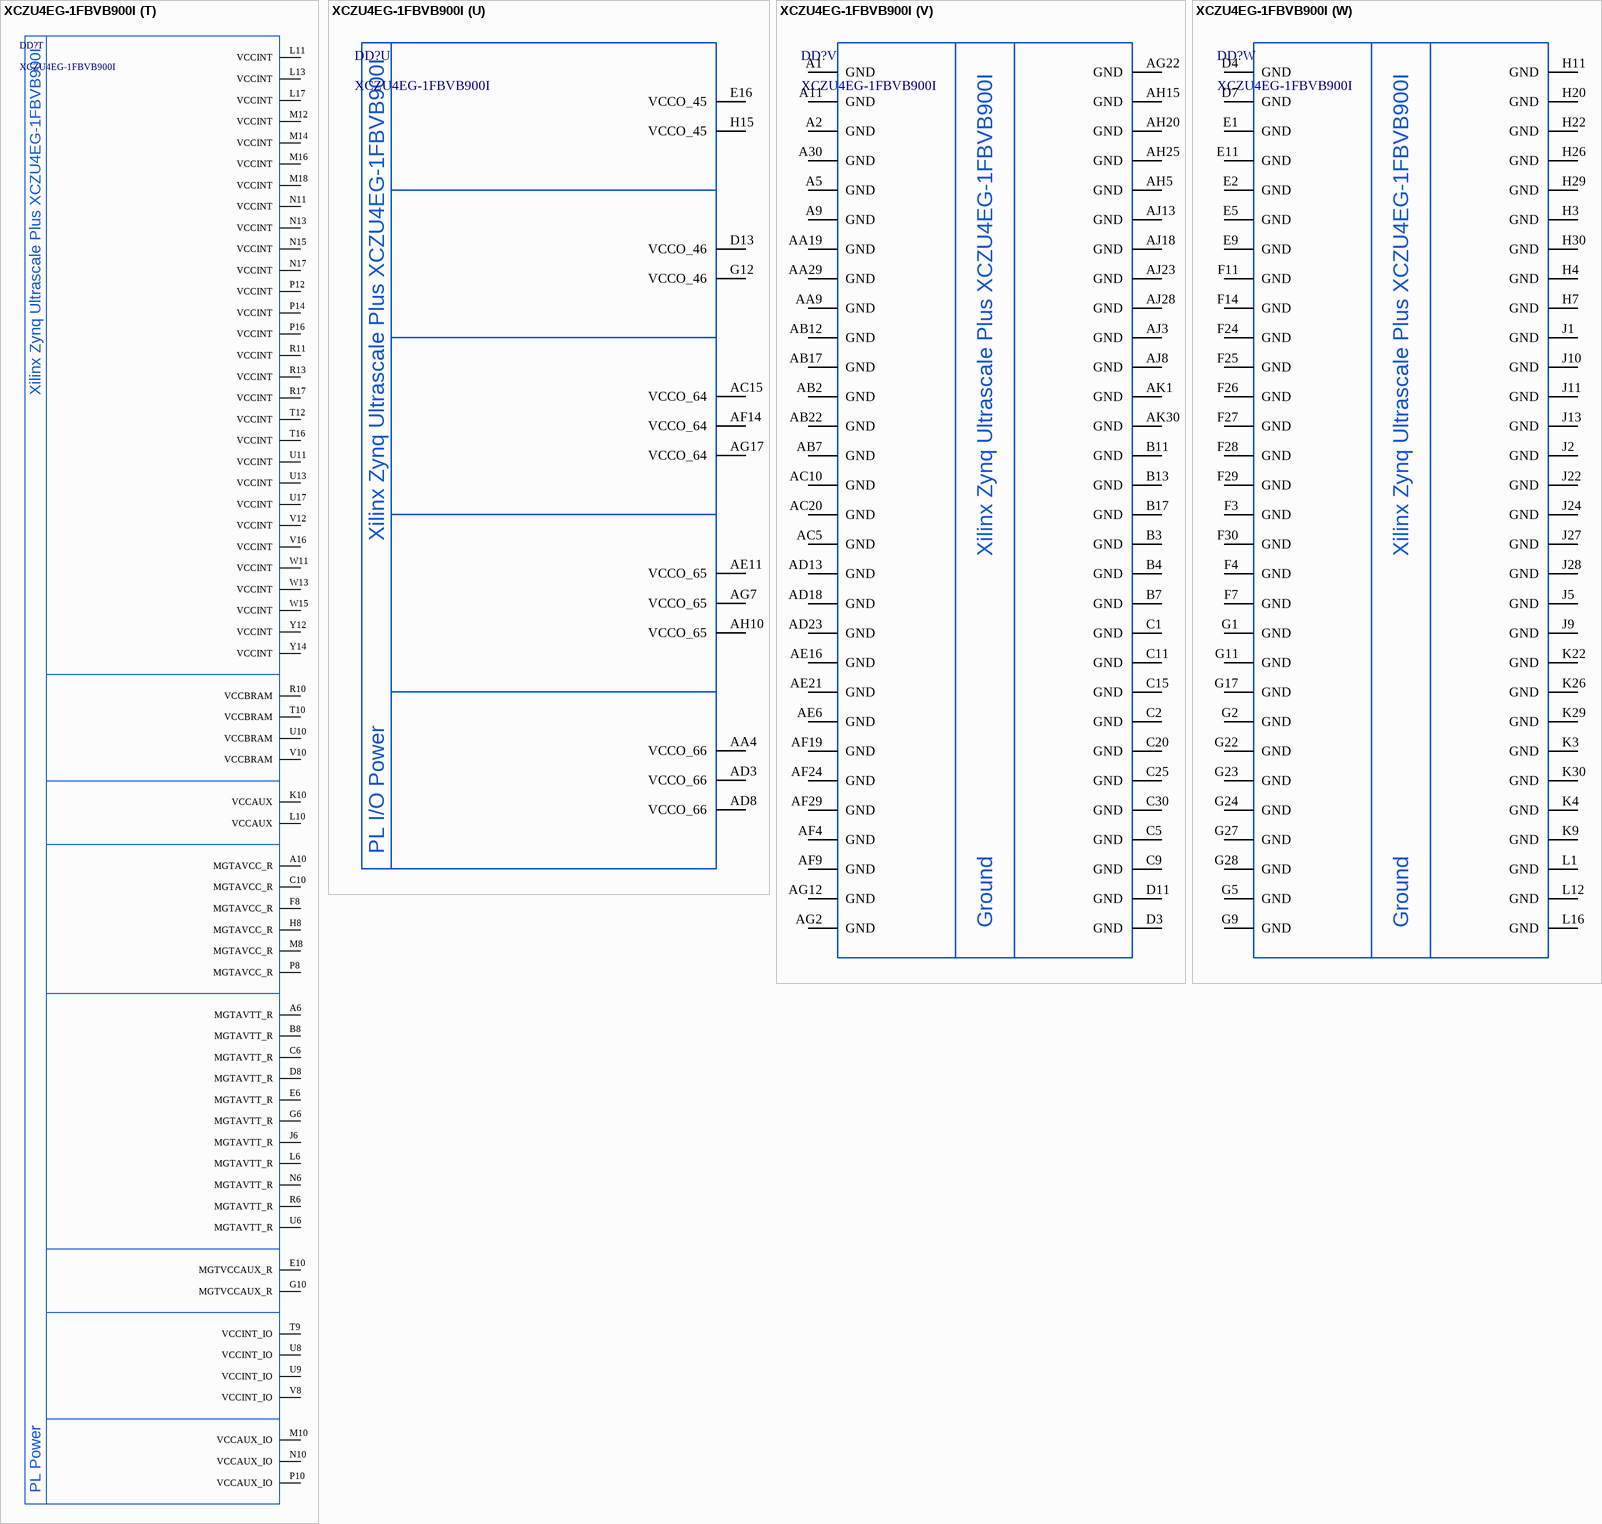
[diagram p69: symbol XCZU4EG-1FBVB900I]

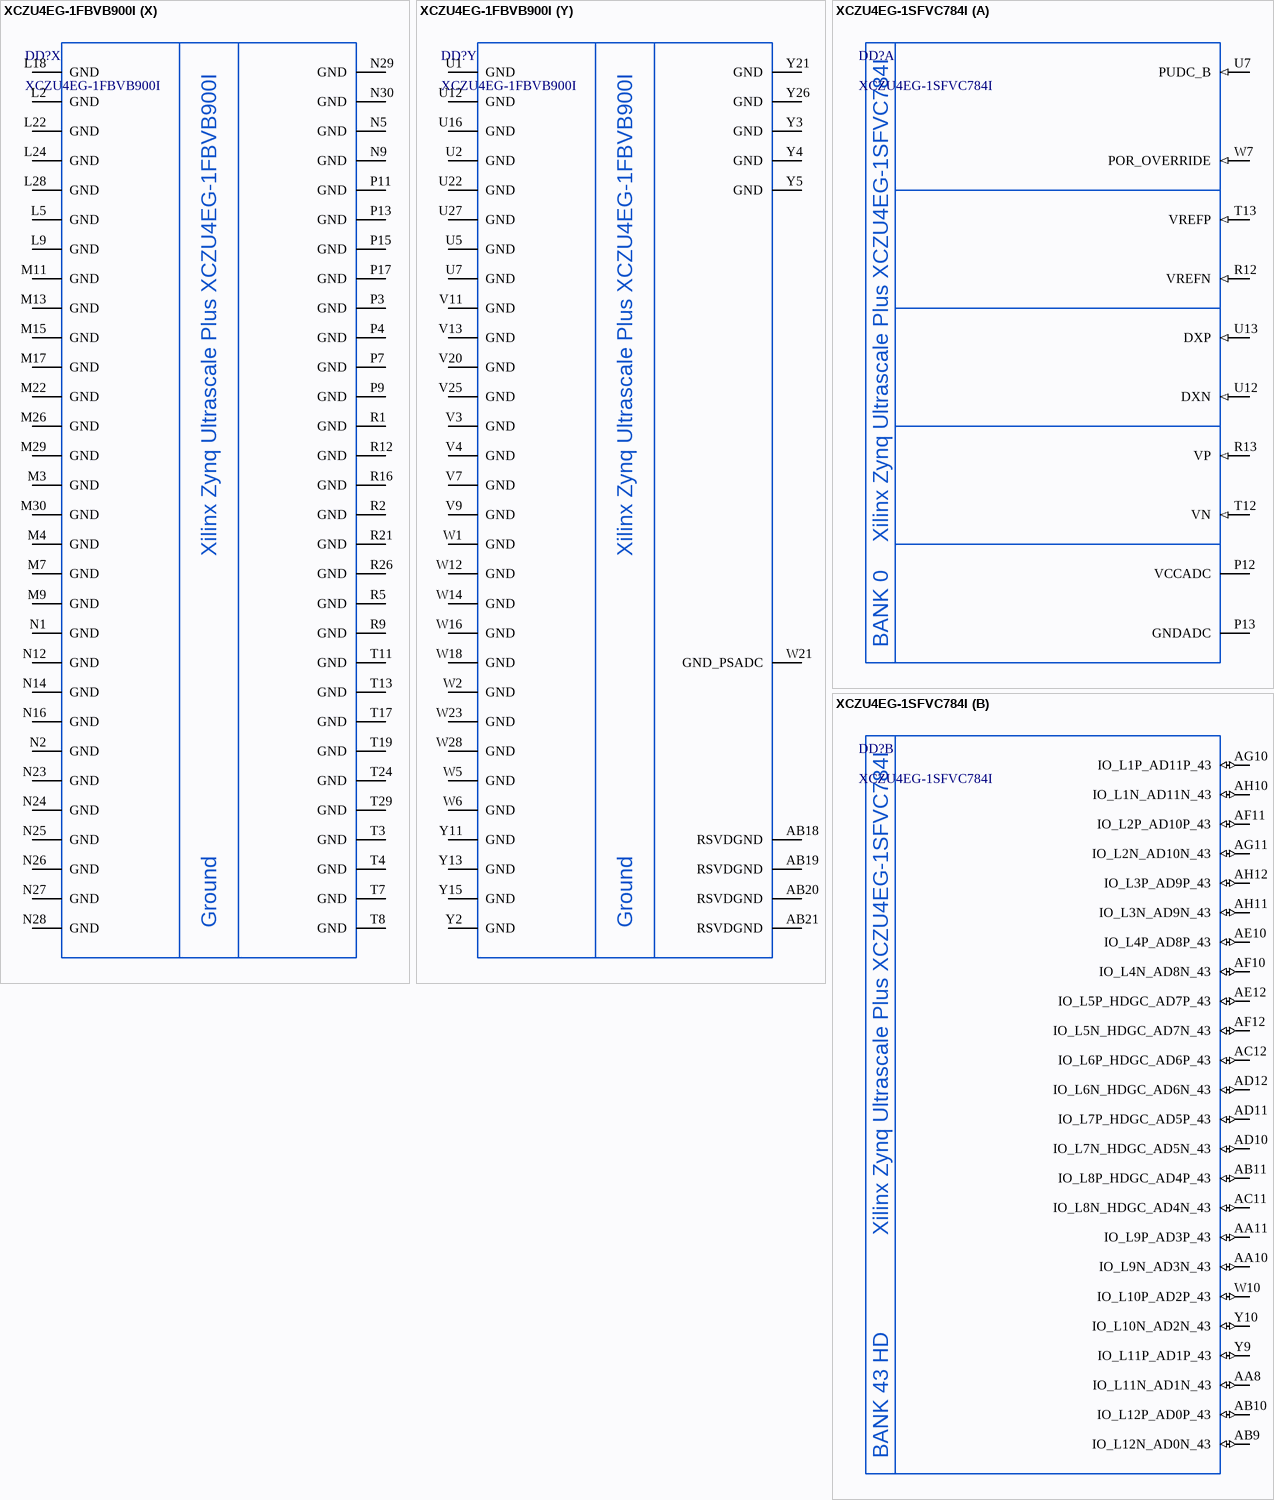
[diagram p70: symbols XCZU4EG-1FBVB900I to XCZU4EG-1SFVC784I]

## XCZU4EG-1FBVB900I
designator DD?
Zynq Ultrascale Plus MPSoC, 214 PS I/O, 204 PL I/O, 900-Ball BGA, 4 GTR, 16 GTH; Manufacturer: Xilinx; ItemType: IC; ItemSubType: SoC; Speed Grade: -1; PartNumber: XCZU4EG-1FBVB900I; Package: FBVB900; Marking: XCZU4EG; Mounting: SMD
footprint FBVB900_XCZU4 (BGA, 900-Leads, Body 31,00x31,00mmx2,88mm, Pitch 1,00mm)
part A pins: R14 GNDADC, R15 VCCADC (power), T14 VREFN (in), T15 VP (in), U14 VN (in), U15 VREFP (in), V14 DXN (in), V15 DXP (in), W7 PUDC_B (in), Y6 POR_OVERRIDE (in)
part B pins: A15 IO_L12N_AD8N_45 (io), A16 IO_L11N_AD9N_45 (io), A17 IO_L11P_AD9P_45 (io), B15 IO_L12P_AD8P_45 (io), B16 IO_L10N_AD10N_45 (io), C16 IO_L9N_AD11N_45 (io), C17 IO_L10P_AD10P_45 (io), D15 IO_L8N_HDGC_45 (io), D16 IO_L9P_AD11P_45 (io), D17 IO_L7N_HDGC_45 (io), E15 IO_L8P_HDGC_45 (io), E17 IO_L7P_HDGC_45 (io), F15 IO_L6N_HDGC_45 (io), F16 IO_L6P_HDGC_45 (io), G15 IO_L5N_HDGC_45 (io), G16 IO_L5P_HDGC_45 (io), H16 IO_L4N_AD12N_45 (io), J14 IO_L3N_AD13N_45 (io), J15 IO_L3P_AD13P_45 (io), J16 IO_L4P_AD12P_45 (io), K14 IO_L2N_AD14N_45 (io), K15 IO_L2P_AD14P_45 (io), L14 IO_L1N_AD15N_45 (io), L15 IO_L1P_AD15P_45 (io)
part C pins: A12 IO_L12N_AD0N_46 (io), A13 IO_L11N_AD1N_46 (io), A14 IO_L11P_AD1P_46 (io), B12 IO_L12P_AD0P_46 (io), B14 IO_L10N_AD2N_46 (io), C12 IO_L9N_AD3N_46 (io), C13 IO_L8N_HDGC_AD4N_46 (io), C14 IO_L10P_AD2P_46 (io), D12 IO_L9P_AD3P_46 (io), D14 IO_L8P_HDGC_AD4P_46 (io), E12 IO_L6N_HDGC_AD6N_46 (io), E13 IO_L7N_HDGC_AD5N_46 (io), E14 IO_L7P_HDGC_AD5P_46 (io), F12 IO_L6P_HDGC_AD6P_46 (io), F13 IO_L5N_HDGC_AD7N_46 (io), G13 IO_L5P_HDGC_AD7P_46 (io), G14 IO_L4N_AD8N_46 (io), H12 IO_L3N_AD9N_46 (io), H13 IO_L3P_AD9P_46 (io), H14 IO_L4P_AD8P_46 (io), J12 IO_L2N_AD10N_46 (io), K11 IO_L1N_AD11N_46 (io), K12 IO_L1P_AD11P_46 (io), K13 IO_L2P_AD10P_46 (io)
part D pins: AA13 IO_L1P_T0L_N0_DBC_64 (io), AA14 IO_L4P_T0U_N6_DBC_AD7P_64 (io), AA15 IO_L5P_T0U_N8_AD14P_64 (io), AA16 IO_L16P_T2U_N6_QBC_AD3P_64 (io), AA17 VREF_64, AB13 IO_L1N_T0L_N1_DBC_64 (io), AB14 IO_L4N_T0U_N7_DBC_AD7N_64 (io), AB15 IO_L5N_T0U_N9_AD14N_64 (io), AB16 IO_L16N_T2U_N7_QBC_AD3N_64 (io), AC13 IO_T0U_N12_VRP_64 (io), AC14 IO_L3P_T0L_N4_AD15P_64 (io), AC16 IO_L15P_T2L_N4_AD11P_64 (io), AC17 IO_L17P_T2U_N8_AD10P_64 (io), AC18 IO_L17N_T2U_N9_AD10N_64 (io), AC19 IO_T2U_N12_64 (io), AD14 IO_L3N_T0L_N5_AD15N_64 (io), AD15 IO_L6P_T0U_N10_AD6P_64 (io), AD16 IO_L15N_T2L_N5_AD11N_64 (io), AD17 IO_L14P_T2L_N2_GC_64 (io), AD19 IO_L18P_T2U_N10_AD2P_64 (io), AE13 IO_L2N_T0L_N3_64 (io), AE14 IO_L2P_T0L_N2_64 (io), AE15 IO_L6N_T0U_N11_AD6N_64 (io), AE17 IO_L14N_T2L_N3_GC_64 (io), AE18 IO_L24P_T3U_N10_64 (io), AE19 IO_L18N_T2U_N11_AD2N_64 (io), AF13 IO_T1U_N12_64 (io), AF15 IO_L12P_T1U_N10_GC_64 (io), AF16 IO_L13P_T2L_N0_GC_QBC_64 (io), AF17 IO_L13N_T2L_N1_GC_QBC_64 (io), AF18 IO_L24N_T3U_N11_64 (io), AG13 IO_L7P_T1L_N0_QBC_AD13P_64 (io), AG14 IO_L11P_T1U_N8_GC_64 (io), AG15 IO_L12N_T1U_N11_GC_64 (io), AG16 IO_L19P_T3L_N0_DBC_AD9P_64 (io), AG18 IO_L23P_T3U_N8_64 (io), AG19 IO_T3U_N12_64 (io), AH13 IO_L7N_T1L_N1_QBC_AD13N_64 (io), AH14 IO_L11N_T1U_N9_GC_64 (io), AH16 IO_L19N_T3L_N1_DBC_AD9N_64 (io), AH17 IO_L21P_T3L_N4_AD8P_64 (io), AH18 IO_L23N_T3U_N9_64 (io), AJ14 IO_L9P_T1L_N4_AD12P_64 (io), AJ15 IO_L10P_T1U_N6_QBC_AD4P_64 (io), AJ16 IO_L20P_T3L_N2_AD1P_64 (io), AJ17 IO_L21N_T3L_N5_AD8N_64 (io), AK12 IO_L8N_T1L_N3_AD5N_64 (io), AK13 IO_L8P_T1L_N2_AD5P_64 (io), AK14 IO_L9N_T1L_N5_AD12N_64 (io), AK15 IO_L10N_T1U_N7_QBC_AD4N_64 (io), AK16 IO_L20N_T3L_N3_AD1N_64 (io), AK17 IO_L22P_T3U_N6_DBC_AD0P_64 (io), AK18 IO_L22N_T3U_N7_DBC_AD0N_64 (io)
part E pins: AE8 IO_L10N_T1U_N7_QBC_AD4N_65 (io), AE9 IO_L10P_T1U_N6_QBC_AD4P_65 (io), AE10 IO_T0U_N12_VRP_65 (io), AE12 VREF_65, AF1 IO_T3U_N12_65 (io), AF2 IO_L24N_T3U_N11_PERSTN0_65 (io), AF3 IO_L24P_T3U_N10_PERSTN1_I2C_SDA_65 (io), AF5 IO_L18N_T2U_N11_AD2N_65 (io), AF6 IO_L18P_T2U_N10_AD2P_65 (io), AF7 IO_L9N_T1L_N5_AD12N_65 (io), AF8 IO_L9P_T1L_N4_AD12P_65 (io), AF10 IO_L6P_T0U_N10_AD6P_65 (io), AF11 IO_L2N_T0L_N3_65 (io), AF12 IO_L2P_T0L_N2_65 (io), AG1 IO_L23P_T3U_N8_I2C_SCLK_65 (io), AG3 IO_L22N_T3U_N7_DBC_AD0N_65 (io), AG4 IO_L22P_T3U_N6_DBC_AD0P_65 (io), AG5 IO_L14N_T2L_N3_GC_65 (io), AG6 IO_L14P_T2L_N2_GC_65 (io), AG8 IO_L11P_T1U_N8_GC_65 (io), AG9 IO_T1U_N12_65 (io), AG10 IO_L6N_T0U_N11_AD6N_65 (io), AG11 IO_L3P_T0L_N4_AD15P_65 (io), AH1 IO_L23N_T3U_N9_65 (io), AH2 IO_L21N_T3L_N5_AD8N_65 (io), AH3 IO_L21P_T3L_N4_AD8P_65 (io), AH4 IO_T2U_N12_65 (io), AH6 IO_L13P_T2L_N0_GC_QBC_65 (io), AH7 IO_L12P_T1U_N10_GC_65 (io), AH8 IO_L11N_T1U_N9_GC_65 (io), AH9 IO_L8P_T1L_N2_AD5P_65 (io), AH11 IO_L3N_T0L_N5_AD15N_65 (io), AH12 IO_L1P_T0L_N0_DBC_65 (io), AJ1 IO_L20N_T3L_N3_AD1N_65 (io), AJ2 IO_L20P_T3L_N2_AD1P_65 (io), AJ4 IO_L17P_T2U_N8_AD10P_65 (io), AJ5 IO_L16P_T2U_N6_QBC_AD3P_65 (io), AJ6 IO_L13N_T2L_N1_GC_QBC_65 (io), AJ7 IO_L12N_T1U_N11_GC_65 (io), AJ9 IO_L8N_T1L_N3_AD5N_65 (io), AJ10 IO_L5P_T0U_N8_AD14P_65 (io), AJ11 IO_L4P_T0U_N6_DBC_AD7P_SMBALERT_65 (io), AJ12 IO_L1N_T0L_N1_DBC_65 (io), AK2 IO_L19N_T3L_N1_DBC_AD9N_65 (io), AK3 IO_L19P_T3L_N0_DBC_AD9P_65 (io), AK4 IO_L17N_T2U_N9_AD10N_65 (io), AK5 IO_L16N_T2U_N7_QBC_AD3N_65 (io), AK6 IO_L15N_T2L_N5_AD11N_65 (io), AK7 IO_L15P_T2L_N4_AD11P_65 (io), AK8 IO_L7N_T1L_N1_QBC_AD13N_65 (io), AK9 IO_L7P_T1L_N0_QBC_AD13P_65 (io), AK10 IO_L5N_T0U_N9_AD14N_65 (io), AK11 IO_L4N_T0U_N7_DBC_AD7N_65 (io)
part F pins: AA1 IO_L24N_T3U_N11_66 (io), AA2 IO_L24P_T3U_N10_66 (io), AA3 IO_L22P_T3U_N6_DBC_AD0P_66 (io), AA5 IO_L18N_T2U_N11_AD2N_66 (io), AA6 IO_L18P_T2U_N10_AD2P_66 (io), AA7 IO_L10N_T1U_N7_QBC_AD4N_66 (io), AA8 IO_L12P_T1U_N10_GC_66 (io), AA10 IO_L6N_T0U_N11_AD6N_66 (io), AA11 IO_L2N_T0L_N3_66 (io), AA12 IO_L2P_T0L_N2_66 (io), AB1 IO_L23P_T3U_N8_66 (io), AB3 IO_L22N_T3U_N7_DBC_AD0N_66 (io), AB4 IO_L17P_T2U_N8_AD10P_66 (io), AB5 IO_L14N_T2L_N3_GC_66 (io), AB6 IO_L14P_T2L_N2_GC_66 (io), AB8 IO_L12N_T1U_N11_GC_66 (io), AB9 IO_L5N_T0U_N9_AD14N_66 (io), AB10 IO_L5P_T0U_N8_AD14P_66 (io), AB11 IO_L3P_T0L_N4_AD15P_66 (io), AC1 IO_L23N_T3U_N9_66 (io), AC2 IO_L21N_T3L_N5_AD8N_66 (io), AC3 IO_L21P_T3L_N4_AD8P_66 (io), AC4 IO_L17N_T2U_N9_AD10N_66 (io), AC6 IO_L8P_T1L_N2_AD5P_66 (io), AC7 IO_L11N_T1U_N9_GC_66 (io), AC8 IO_L11P_T1U_N8_GC_66 (io), AC9 IO_L7P_T1L_N0_QBC_AD13P_66 (io), AC11 IO_L3N_T0L_N5_AD15N_66 (io), AC12 IO_L1P_T0L_N0_DBC_66 (io), AD1 IO_L20P_T3L_N2_AD1P_66 (io), AD2 IO_L19P_T3L_N0_DBC_AD9P_66 (io), AD4 IO_L16P_T2U_N6_QBC_AD3P_66 (io), AD5 IO_L15P_T2L_N4_AD11P_66 (io), AD6 IO_L8N_T1L_N3_AD5N_66 (io), AD7 IO_L13P_T2L_N0_GC_QBC_66 (io), AD9 IO_L7N_T1L_N1_QBC_AD13N_66 (io), AD10 IO_L4N_T0U_N7_DBC_AD7N_66 (io), AD11 IO_L4P_T0U_N6_DBC_AD7P_66 (io), AD12 IO_L1N_T0L_N1_DBC_66 (io), AE1 IO_L20N_T3L_N3_AD1N_66 (io), AE2 IO_L19N_T3L_N1_DBC_AD9N_66 (io), AE3 IO_T2U_N12_66 (io), AE4 IO_L16N_T2U_N7_QBC_AD3N_66 (io), AE5 IO_L15N_T2L_N5_AD11N_66 (io), AE7 IO_L13N_T2L_N1_GC_QBC_66 (io), W8 IO_L9P_T1L_N4_AD12P_66 (io), W9 IO_T1U_N12_66 (io), W10 VREF_66, Y1 IO_T3U_N12_66 (io), Y7 IO_L10P_T1U_N6_QBC_AD4P_66 (io), Y8 IO_L9N_T1L_N5_AD12N_66 (io), Y9 IO_T0U_N12_VRP_66 (io), Y10 IO_L6P_T0U_N10_AD6P_66 (io)
part G pins: N7 MGTREFCLK1N_223 (in), N8 MGTREFCLK1P_223 (in), P1 MGTHRXN3_223 (in), P2 MGTHRXP3_223 (in), R3 MGTHTXN3_223 (out), R4 MGTHTXP3_223 (out), R7 MGTREFCLK0N_223 (in), R8 MGTREFCLK0P_223 (in), T1 MGTHRXN2_223 (in), T2 MGTHRXP2_223 (in), T5 MGTHTXN2_223 (out), T6 MGTHTXP2_223 (out), U3 MGTHRXN1_223 (in), U4 MGTHRXP1_223 (in), V1 MGTHRXN0_223 (in), V2 MGTHRXP0_223 (in), V5 MGTHTXN1_223 (out), V6 MGTHTXP1_223 (out), W3 MGTHTXN0_223 (out), W4 MGTHTXP0_223 (out)
part H pins: J3 MGTHRXN3_224 (in), J4 MGTHRXP3_224 (in), J7 MGTREFCLK1N_224 (in), J8 MGTREFCLK1P_224 (in), K1 MGTHRXN2_224 (in), K2 MGTHRXP2_224 (in), K5 MGTHTXN3_224 (out), K6 MGTHTXP3_224 (out), K7 MGTAVTTRCAL_R, K8 MGTRREF_R, L3 MGTHTXN2_224 (out), L4 MGTHTXP2_224 (out), L7 MGTREFCLK0N_224 (in), L8 MGTREFCLK0P_224 (in), M1 MGTHRXN1_224 (in), M2 MGTHRXP1_224 (in), M5 MGTHTXN1_224 (out), M6 MGTHTXP1_224 (out), N3 MGTHRXN0_224 (in), N4 MGTHRXP0_224 (in), P5 MGTHTXN0_224 (out), P6 MGTHTXP0_224 (out)
part I pins: E3 MGTHRXN3_225 (in), E4 MGTHRXP3_225 (in), E7 MGTHTXN3_225 (out), E8 MGTHTXP3_225 (out), F1 MGTHRXN2_225 (in), F2 MGTHRXP2_225 (in), F5 MGTHTXN2_225 (out), F6 MGTHTXP2_225 (out), F9 MGTREFCLK1N_225 (in), F10 MGTREFCLK1P_225 (in), G3 MGTHRXN1_225 (in), G4 MGTHRXP1_225 (in), G7 MGTHTXN1_225 (out), G8 MGTHTXP1_225 (out), H1 MGTHRXN0_225 (in), H2 MGTHRXP0_225 (in), H5 MGTHTXN0_225 (out), H6 MGTHTXP0_225 (out), H9 MGTREFCLK0N_225 (in), H10 MGTREFCLK0P_225 (in)
part J pins: A3 MGTHRXN3_226 (in), A4 MGTHRXP3_226 (in), A7 MGTHTXN3_226 (out), A8 MGTHTXP3_226 (out), B1 MGTHRXN2_226 (in), B2 MGTHRXP2_226 (in), B5 MGTHTXN2_226 (out), B6 MGTHTXP2_226 (out), B9 MGTREFCLK1N_226 (in), B10 MGTREFCLK1P_226 (in), C3 MGTHRXN1_226 (in), C4 MGTHRXP1_226 (in), C7 MGTHTXN1_226 (out), C8 MGTHTXP1_226 (out), D1 MGTHRXN0_226 (in), D2 MGTHRXP0_226 (in), D5 MGTHTXN0_226 (out), D6 MGTHTXP0_226 (out), D9 MGTREFCLK0N_226 (in), D10 MGTREFCLK0P_226 (in)
part K pins: A18 PS_MIO24 (io), A19 PS_MIO20 (io), A20 PS_MIO1 (io), B18 PS_MIO25 (io), B19 PS_MIO2 (io), C18 PS_MIO17 (io), C19 PS_MIO5 (io), D19 PS_MIO3 (io), D20 PS_MIO6 (io), E18 PS_MIO14 (io), E19 PS_MIO7 (io), E20 PS_MIO8 (io), F17 PS_MIO22 (io), F18 PS_MIO10 (io), F20 PS_MIO9 (io), G18 PS_MIO11 (io), G19 PS_MIO13 (io), H17 PS_MIO0 (io), H18 PS_MIO12 (io), H19 PS_MIO21 (io), J17 PS_MIO4 (io), J19 PS_MIO15 (io), K16 PS_MIO19 (io), K17 PS_MIO16 (io), K18 PS_MIO18 (io), K19 PS_MIO23 (io)
part L pins: A21 PS_MIO28 (io), A22 PS_MIO31 (io), B20 PS_MIO26 (io), B21 PS_MIO27 (io), B23 PS_MIO35 (io), B24 PS_MIO34 (io), C21 PS_MIO30 (io), C22 PS_MIO33 (io), C23 PS_MIO38 (io), C24 PS_MIO40 (io), D21 PS_MIO29 (io), D22 PS_MIO36 (io), D24 PS_MIO41 (io), E22 PS_MIO39 (io), E23 PS_MIO42 (io), E24 PS_MIO44 (io), F21 PS_MIO37 (io), F22 PS_MIO43 (io), F23 PS_MIO45 (io), G20 PS_MIO32 (io), G21 PS_MIO49 (io), H21 PS_MIO51 (io), J20 PS_MIO50 (io), J21 PS_MIO48 (io), K20 PS_MIO46 (io), K21 PS_MIO47 (io)
part M pins: A23 PS_MIO54 (io), A24 PS_MIO52 (io), A25 PS_MIO56 (io), A26 PS_MIO57 (io), A27 PS_MIO59 (io), A28 PS_MIO58 (io), A29 PS_MIO63 (io), B25 PS_MIO53 (io), B26 PS_MIO55 (io), B28 PS_MIO62 (io), B29 PS_MIO61 (io), B30 PS_MIO64 (io), C26 PS_MIO60 (io), C27 PS_MIO66 (io), C28 PS_MIO67 (io), C29 PS_MIO68 (io), D25 PS_MIO65 (io), D26 PS_MIO70 (io), D27 PS_MIO69 (io), D29 PS_MIO75 (io), D30 PS_MIO71 (io), E25 PS_MIO77 (io), E27 PS_MIO72 (io), E28 PS_MIO76 (io), E29 PS_MIO74 (io), E30 PS_MIO73 (io)
part N pins: L19 PS_JTAG_TCK (in), L20 PS_JTAG_TDI (in), L21 PS_JTAG_TMS (in), M19 PS_PROG_B (in), M20 PS_JTAG_TDO (out), M21 PS_PADI (in), N18 PS_INIT_B (in), N19 PS_POR_B (in), N21 PS_PADO (out), N22 PS_DONE (out), P19 PS_REF_CLK (in), P20 PS_SRST_B (in), P21 PS_MODE2 (in), P22 PS_MODE3 (in), R18 PS_MODE0 (in), R19 PS_MODE1 (in), R20 PS_ERROR_STATUS (out), R22 PS_ERROR_OUT (out)
part O pins: AB23 PS_DDR_ZQ, AB24 PS_DDR_ALERT_N (in), AB25 PS_DDR_RAM_RST_N (out), AB26 PS_DDR_PARITY (out), AB28 PS_DDR_CKE1 (out), AB30 PS_DDR_ODT0 (out), AC26 PS_DDR_BA1 (out), AC27 PS_DDR_BG1 (out), AC28 PS_DDR_BG0 (out), AC29 PS_DDR_ODT1 (out), AC30 PS_DDR_CKE0 (out), AD26 PS_DDR_ACT_N (out), AD27 PS_DDR_BA0 (out), AD29 PS_DDR_CS_N1 (out), AD30 PS_DDR_CS_N0 (out), AE27 PS_DDR_A7 (out), AE28 PS_DDR_A11 (out), AE29 PS_DDR_A10 (out), AE30 PS_DDR_CK0 (out), AF26 PS_DDR_A8 (out), AF27 PS_DDR_A6 (out), AF28 PS_DDR_CK1 (out), AF30 PS_DDR_CK_N0 (out), AG26 PS_DDR_A9 (out), AG28 PS_DDR_CK_N1 (out), AG29 PS_DDR_A14 (out), AG30 PS_DDR_A1 (out), AH27 PS_DDR_A16 (out), AH28 PS_DDR_A13 (out), AH29 PS_DDR_A12 (out), AH30 PS_DDR_A0 (out), AJ27 PS_DDR_A17 (out), AJ29 PS_DDR_A15 (out), AJ30 PS_DDR_A3 (out), AK27 PS_DDR_A5 (out), AK28 PS_DDR_A4 (out), AK29 PS_DDR_A2 (out)
part P pins: AC21 PS_DDR_DQS_P2 (io), AC22 PS_DDR_DQ28 (io), AC23 PS_DDR_DQ29 (io), AC24 PS_DDR_DQ31 (io), AD20 PS_DDR_DQ20 (io), AD21 PS_DDR_DQS_N2 (io), AD22 PS_DDR_DQ16 (io), AD24 PS_DDR_DQS_P3 (io), AD25 PS_DDR_DQ30 (io), AE20 PS_DDR_DQ22 (io), AE22 PS_DDR_DQ17 (io), AE23 PS_DDR_DQ27 (io), AE24 PS_DDR_DQS_N3 (io), AE25 PS_DDR_DM3 (out), AF20 PS_DDR_DQ21 (io), AF21 PS_DDR_DM2 (out), AF22 PS_DDR_DQ18 (io), AF23 PS_DDR_DQ25 (io), AF25 PS_DDR_DQ26 (io), AG20 PS_DDR_DQ23 (io), AG21 PS_DDR_DQ19 (io), AG23 PS_DDR_DQ24 (io), AG24 PS_DDR_DQ10 (io), AG25 PS_DDR_DQ14 (io), AH19 PS_DDR_DQ7 (io), AH21 PS_DDR_DQ1 (io), AH22 PS_DDR_DQ0 (io), AH23 PS_DDR_DQ8 (io), AH24 PS_DDR_DQS_P1 (io), AH26 PS_DDR_DQ15 (io), AJ19 PS_DDR_DQ5 (io), AJ20 PS_DDR_DM0 (out), AJ21 PS_DDR_DQS_P0 (io), AJ22 PS_DDR_DQ2 (io), AJ24 PS_DDR_DQS_N1 (io), AJ25 PS_DDR_DM1 (out), AJ26 PS_DDR_DQ12 (io), AK19 PS_DDR_DQ6 (io), AK20 PS_DDR_DQ4 (io), AK21 PS_DDR_DQS_N0 (io), AK22 PS_DDR_DQ3 (io), AK23 PS_DDR_DQ9 (io), AK24 PS_DDR_DQ11 (io), AK25 PS_DDR_DQ13 (io)
part Q pins: AA23 PS_DDR_DQ37 (io), AA25 PS_DDR_DQ38 (io), AA26 PS_DDR_DQ68 (io), AA27 PS_DDR_DM8 (out), AA28 PS_DDR_DQS_N8 (io), AA30 PS_DDR_DQ65 (io), AB29 PS_DDR_DQ64 (io), P23 PS_DDR_DQ40 (io), P24 PS_DDR_DQ47 (io), P25 PS_DDR_DQS_P5 (io), P26 PS_DDR_DQ43 (io), P27 PS_DDR_DQ62 (io), P28 PS_DDR_DM7 (out), P29 PS_DDR_DQ59 (io), P30 PS_DDR_DQ58 (io), R23 PS_DDR_DQ41 (io), R24 PS_DDR_DM5 (out), R25 PS_DDR_DQS_N5 (io), R27 PS_DDR_DQ63 (io), R28 PS_DDR_DQS_P7 (io), R29 PS_DDR_DQS_N7 (io), R30 PS_DDR_DQ56 (io), T23 PS_DDR_DQ42 (io), T25 PS_DDR_DQ44 (io), T26 PS_DDR_DQ46 (io), T27 PS_DDR_DQ61 (io), T28 PS_DDR_DQ60 (io), T30 PS_DDR_DQ57 (io), U23 PS_DDR_DQ45 (io), U24 PS_DDR_DQ32 (io), U25 PS_DDR_DQ34 (io), U26 PS_DDR_DQ48 (io), U28 PS_DDR_DQ50 (io), U29 PS_DDR_DQS_P6 (io), U30 PS_DDR_DQ52 (io), V23 PS_DDR_DQ33 (io), V24 PS_DDR_DQ35 (io), V26 PS_DDR_DQ49 (io), V27 PS_DDR_DQ51 (io), V28 PS_DDR_DM6 (out), V29 PS_DDR_DQS_N6 (io), V30 PS_DDR_DQ53 (io), W24 PS_DDR_DQS_P4 (io), W25 PS_DDR_DQS_N4 (io), W26 PS_DDR_DQ71 (io), W27 PS_DDR_DQ69 (io), W29 PS_DDR_DQ55 (io), W30 PS_DDR_DQ54 (io), Y23 PS_DDR_DQ39 (io), Y24 PS_DDR_DM4 (out), Y25 PS_DDR_DQ36 (io), Y27 PS_DDR_DQ70 (io), Y28 PS_DDR_DQS_P8 (io), Y29 PS_DDR_DQ67 (io), Y30 PS_DDR_DQ66 (io)
part R pins: G25 PS_MGTRTXP3_505 (out), G26 PS_MGTRTXN3_505 (out), G29 PS_MGTRRXP3_505 (in), G30 PS_MGTRRXN3_505 (in), H23 PS_MGTREFCLK3P_505 (in), H24 PS_MGTREFCLK3N_505 (in), H27 PS_MGTRRXP2_505 (in), H28 PS_MGTRRXN2_505 (in), J25 PS_MGTRTXP2_505 (out), J26 PS_MGTRTXN2_505 (out), J29 PS_MGTRRXP1_505 (in), J30 PS_MGTRRXN1_505 (in), K23 PS_MGTREFCLK2P_505 (in), K24 PS_MGTREFCLK2N_505 (in), K27 PS_MGTRTXP1_505 (out), K28 PS_MGTRTXN1_505 (out), L25 PS_MGTREFCLK1P_505 (in), L26 PS_MGTREFCLK1N_505 (in), L29 PS_MGTRRXP0_505 (in), L30 PS_MGTRRXN0_505 (in), M23 PS_MGTREFCLK0P_505 (in), M24 PS_MGTREFCLK0N_505 (in), M25 PS_MGTRREF_505, M27 PS_MGTRTXP0_505 (out), M28 PS_MGTRTXN0_505 (out)
part S pins: AA18 VCC_PSINTFP (power), AA20 VCC_PSINTFP (power), AA21 VCC_PSINTFP_DDR (power), AA22 VCC_PSINTFP_DDR (power), AA24 VCCO_PSDDR_504 (power), AB27 VCCO_PSDDR_504 (power), AC25 VCCO_PSDDR_504 (power), AD28 VCCO_PSDDR_504 (power), AE26 VCCO_PSDDR_504 (power), AG27 VCCO_PSDDR_504 (power), AK26 VCCO_PSDDR_504 (power), B22 VCCO_PSIO1_501 (power), B27 VCCO_PSIO2_502 (power), D18 VCCO_PSIO0_500 (power), D23 VCCO_PSIO1_501 (power), D28 VCCO_PSIO2_502 (power), E21 VCCO_PSIO1_501 (power), E26 VCCO_PSIO2_502 (power), F19 VCCO_PSIO0_500 (power), H25 PS_MGTRAVTT (power), J18 VCCO_PSIO0_500 (power), J23 PS_MGTRAVCC (power), K25 PS_MGTRAVTT (power), L23 PS_MGTRAVCC (power), L27 PS_MGTRAVTT (power), N20 VCCO_PSIO3_503 (power), P18 VCCO_PSIO3_503 (power), T18 VCC_PSPLL (power), T20 VCC_PSPLL (power), T21 VCC_PSPLL (power), T22 VCC_PSAUX (power), U18 VCC_PSDDR_PLL (power), U19 VCC_PSDDR_PLL (power), U20 VCC_PSBATT (power), U21 VCC_PSAUX (power), V17 VCC_PSINTLP (power), V18 VCC_PSINTLP (power), V19 VCC_PSINTLP (power), V21 VCC_PSAUX (power), V22 VCC_PSAUX (power), W17 VCC_PSINTLP (power), W19 VCC_PSINTLP (power), W20 VCC_PSINTLP (power), W22 VCC_PSADC (power), Y16 VCC_PSINTFP (power), Y17 VCC_PSINTFP (power), Y18 VCC_PSINTFP (power), Y19 VCC_PSINTFP (power), Y20 VCC_PSINTFP (power), Y22 VCC_PSINTFP_DDR (power)
part T pins: A6 MGTAVTT_R (power), A10 MGTAVCC_R (power), B8 MGTAVTT_R (power), C6 MGTAVTT_R (power), C10 MGTAVCC_R (power), D8 MGTAVTT_R (power), E6 MGTAVTT_R (power), E10 MGTVCCAUX_R (power), F8 MGTAVCC_R (power), G6 MGTAVTT_R (power), G10 MGTVCCAUX_R (power), H8 MGTAVCC_R (power), J6 MGTAVTT_R (power), K10 VCCAUX (power), L6 MGTAVTT_R (power), L10 VCCAUX (power), L11 VCCINT (power), L13 VCCINT (power), L17 VCCINT (power), M8 MGTAVCC_R (power), M10 VCCAUX_IO (power), M12 VCCINT (power), M14 VCCINT (power), M16 VCCINT (power), M18 VCCINT (power), N6 MGTAVTT_R (power), N10 VCCAUX_IO (power), N11 VCCINT (power), N13 VCCINT (power), N15 VCCINT (power), N17 VCCINT (power), P8 MGTAVCC_R (power), P10 VCCAUX_IO (power), P12 VCCINT (power), P14 VCCINT (power), P16 VCCINT (power), R6 MGTAVTT_R (power), R10 VCCBRAM (power), R11 VCCINT (power), R13 VCCINT (power), R17 VCCINT (power), T9 VCCINT_IO (power), T10 VCCBRAM (power), T12 VCCINT (power), T16 VCCINT (power), U6 MGTAVTT_R (power), U8 VCCINT_IO (power), U9 VCCINT_IO (power), U10 VCCBRAM (power), U11 VCCINT (power), U13 VCCINT (power), U17 VCCINT (power), V8 VCCINT_IO (power), V10 VCCBRAM (power), V12 VCCINT (power), V16 VCCINT (power), W11 VCCINT (power), W13 VCCINT (power), W15 VCCINT (power), Y12 VCCINT (power), Y14 VCCINT (power)
part U pins: AA4 VCCO_66 (power), AC15 VCCO_64 (power), AD3 VCCO_66 (power), AD8 VCCO_66 (power), AE11 VCCO_65 (power), AF14 VCCO_64 (power), AG7 VCCO_65 (power), AG17 VCCO_64 (power), AH10 VCCO_65 (power), D13 VCCO_46 (power), E16 VCCO_45 (power), G12 VCCO_46 (power), H15 VCCO_45 (power)
part V pins: A1 GND, A2 GND, A5 GND, A9 GND, A11 GND, A30 GND, AA9 GND, AA19 GND, AA29 GND, AB2 GND, AB7 GND, AB12 GND, AB17 GND, AB22 GND, AC5 GND, AC10 GND, AC20 GND, AD13 GND, AD18 GND, AD23 GND, AE6 GND, AE16 GND, AE21 GND, AF4 GND, AF9 GND, AF19 GND, AF24 GND, AF29 GND, AG2 GND, AG12 GND, AG22 GND, AH5 GND, AH15 GND, AH20 GND, AH25 GND, AJ3 GND, AJ8 GND, AJ13 GND, AJ18 GND, AJ23 GND, AJ28 GND, AK1 GND, AK30 GND, B3 GND, B4 GND, B7 GND, B11 GND, B13 GND, B17 GND, C1 GND, C2 GND, C5 GND, C9 GND, C11 GND, C15 GND, C20 GND, C25 GND, C30 GND, D3 GND, D11 GND
part W pins: D4 GND, D7 GND, E1 GND, E2 GND, E5 GND, E9 GND, E11 GND, F3 GND, F4 GND, F7 GND, F11 GND, F14 GND, F24 GND, F25 GND, F26 GND, F27 GND, F28 GND, F29 GND, F30 GND, G1 GND, G2 GND, G5 GND, G9 GND, G11 GND, G17 GND, G22 GND, G23 GND, G24 GND, G27 GND, G28 GND, H3 GND, H4 GND, H7 GND, H11 GND, H20 GND, H22 GND, H26 GND, H29 GND, H30 GND, J1 GND, J2 GND, J5 GND, J9 GND, J10 GND, J11 GND, J13 GND, J22 GND, J24 GND, J27 GND, J28 GND, K3 GND, K4 GND, K9 GND, K22 GND, K26 GND, K29 GND, K30 GND, L1 GND, L12 GND, L16 GND
part X pins: L2 GND, L5 GND, L9 GND, L18 GND, L22 GND, L24 GND, L28 GND, M3 GND, M4 GND, M7 GND, M9 GND, M11 GND, M13 GND, M15 GND, M17 GND, M22 GND, M26 GND, M29 GND, M30 GND, N1 GND, N2 GND, N5 GND, N9 GND, N12 GND, N14 GND, N16 GND, N23 GND, N24 GND, N25 GND, N26 GND, N27 GND, N28 GND, N29 GND, N30 GND, P3 GND, P4 GND, P7 GND, P9 GND, P11 GND, P13 GND, P15 GND, P17 GND, R1 GND, R2 GND, R5 GND, R9 GND, R12 GND, R16 GND, R21 GND, R26 GND, T3 GND, T4 GND, T7 GND, T8 GND, T11 GND, T13 GND, T17 GND, T19 GND, T24 GND, T29 GND
part Y pins: AB18 RSVDGND, AB19 RSVDGND, AB20 RSVDGND, AB21 RSVDGND, U1 GND, U2 GND, U5 GND, U7 GND, U12 GND, U16 GND, U22 GND, U27 GND, V3 GND, V4 GND, V7 GND, V9 GND, V11 GND, V13 GND, V20 GND, V25 GND, W1 GND, W2 GND, W5 GND, W6 GND, W12 GND, W14 GND, W16 GND, W18 GND, W21 GND_PSADC, W23 GND, W28 GND, Y2 GND, Y3 GND, Y4 GND, Y5 GND, Y11 GND, Y13 GND, Y15 GND, Y21 GND, Y26 GND
part A text: Xilinx Zynq Ultrascale Plus XCZU4EG-1FBVB900I; BANK 0
part B text: Xilinx Zynq Ultrascale Plus XCZU4EG-1FBVB900I; BANK 45 HD
part C text: Xilinx Zynq Ultrascale Plus XCZU4EG-1FBVB900I; BANK 46 HD
part D text: Xilinx Zynq Ultrascale Plus XCZU4EG-1FBVB900I; BANK 64 HP
part E text: Xilinx Zynq Ultrascale Plus XCZU4EG-1FBVB900I; BANK 65 HP
part F text: Xilinx Zynq Ultrascale Plus XCZU4EG-1FBVB900I; BANK 66 HP
part G text: Xilinx Zynq Ultrascale Plus XCZU4EG-1FBVB900I; BANK 223 GTH
part H text: Xilinx Zynq Ultrascale Plus XCZU4EG-1FBVB900I; BANK 224 GTH
part I text: Xilinx Zynq Ultrascale Plus XCZU4EG-1FBVB900I; BANK 225 GTH
part J text: Xilinx Zynq Ultrascale Plus XCZU4EG-1FBVB900I; BANK 226 GTH
part K text: Xilinx Zynq Ultrascale Plus XCZU4EG-1FBVB900I; BANK 500 PS
part L text: Xilinx Zynq Ultrascale Plus XCZU4EG-1FBVB900I; BANK 501 PS
part M text: Xilinx Zynq Ultrascale Plus XCZU4EG-1FBVB900I; BANK 502 PS
part N text: Xilinx Zynq Ultrascale Plus XCZU4EG-1FBVB900I; BANK 503 PS
part O text: Xilinx Zynq Ultrascale Plus XCZU4EG-1FBVB900I; BANK 504 PSDDR
part P text: Xilinx Zynq Ultrascale Plus XCZU4EG-1FBVB900I; BANK 504 PSDDR
part Q text: Xilinx Zynq Ultrascale Plus XCZU4EG-1FBVB900I; BANK 504 PSDDR
part R text: Xilinx Zynq Ultrascale Plus XCZU4EG-1FBVB900I; BANK 505 GTR
part S text: Xilinx Zynq Ultrascale Plus XCZU4EG-1FBVB900I; PS Power
part T text: Xilinx Zynq Ultrascale Plus XCZU4EG-1FBVB900I; PL Power
part U text: Xilinx Zynq Ultrascale Plus XCZU4EG-1FBVB900I; PL I/O Power
part V text: Xilinx Zynq Ultrascale Plus XCZU4EG-1FBVB900I; Ground
part W text: Xilinx Zynq Ultrascale Plus XCZU4EG-1FBVB900I; Ground
part X text: Xilinx Zynq Ultrascale Plus XCZU4EG-1FBVB900I; Ground
part Y text: Xilinx Zynq Ultrascale Plus XCZU4EG-1FBVB900I; Ground

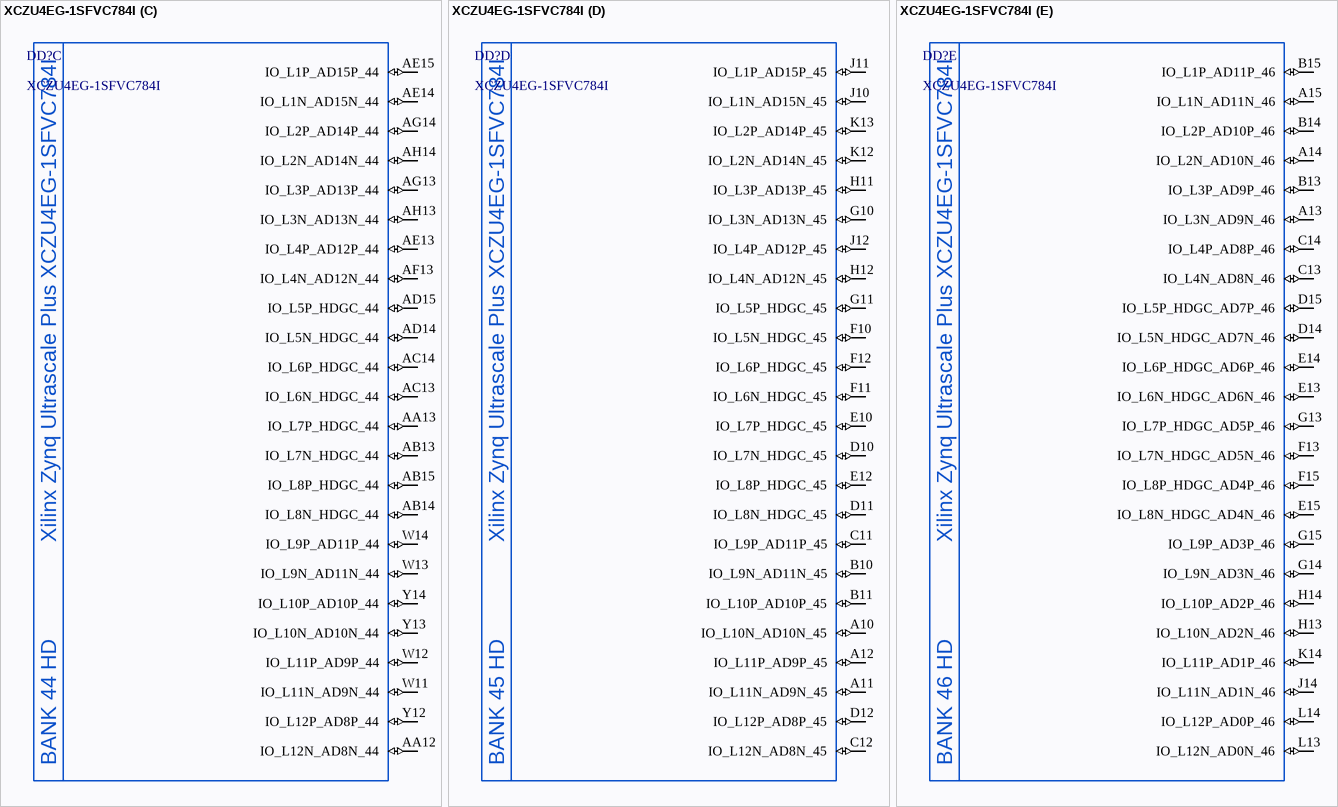
[diagram p71: symbol XCZU4EG-1SFVC784I]

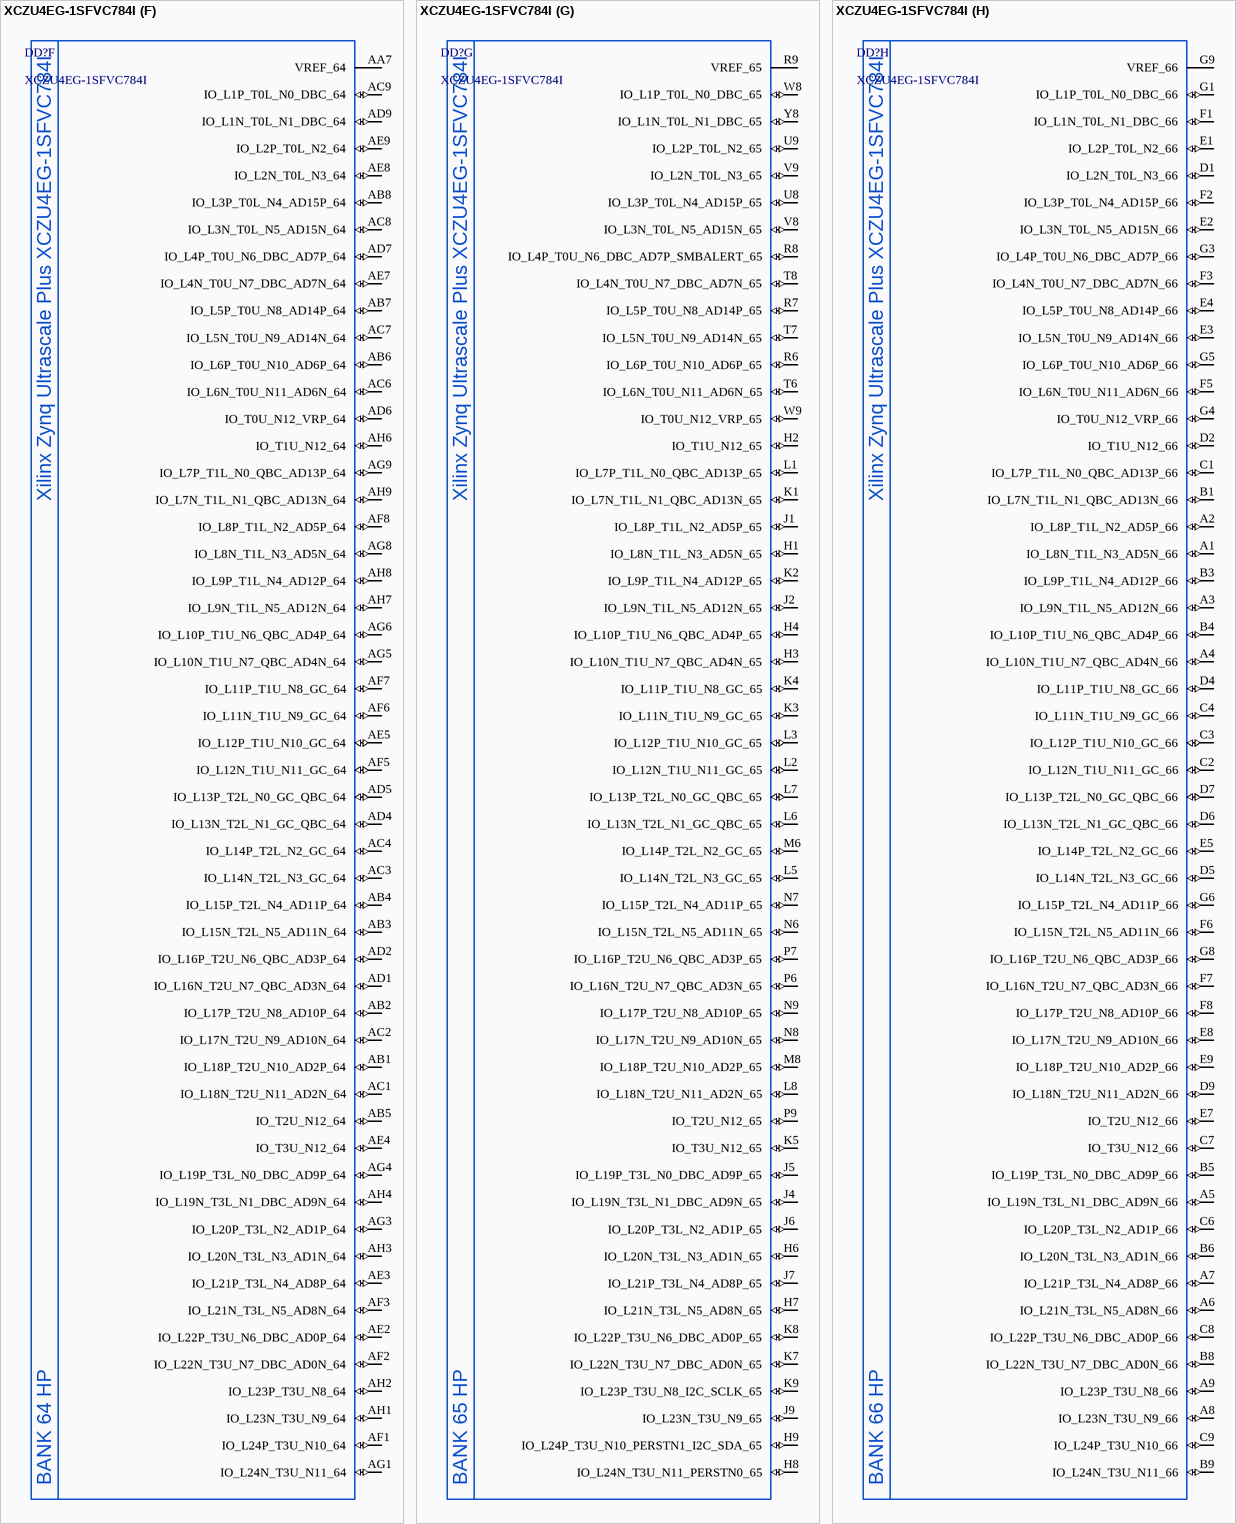
[diagram p72: symbol XCZU4EG-1SFVC784I]

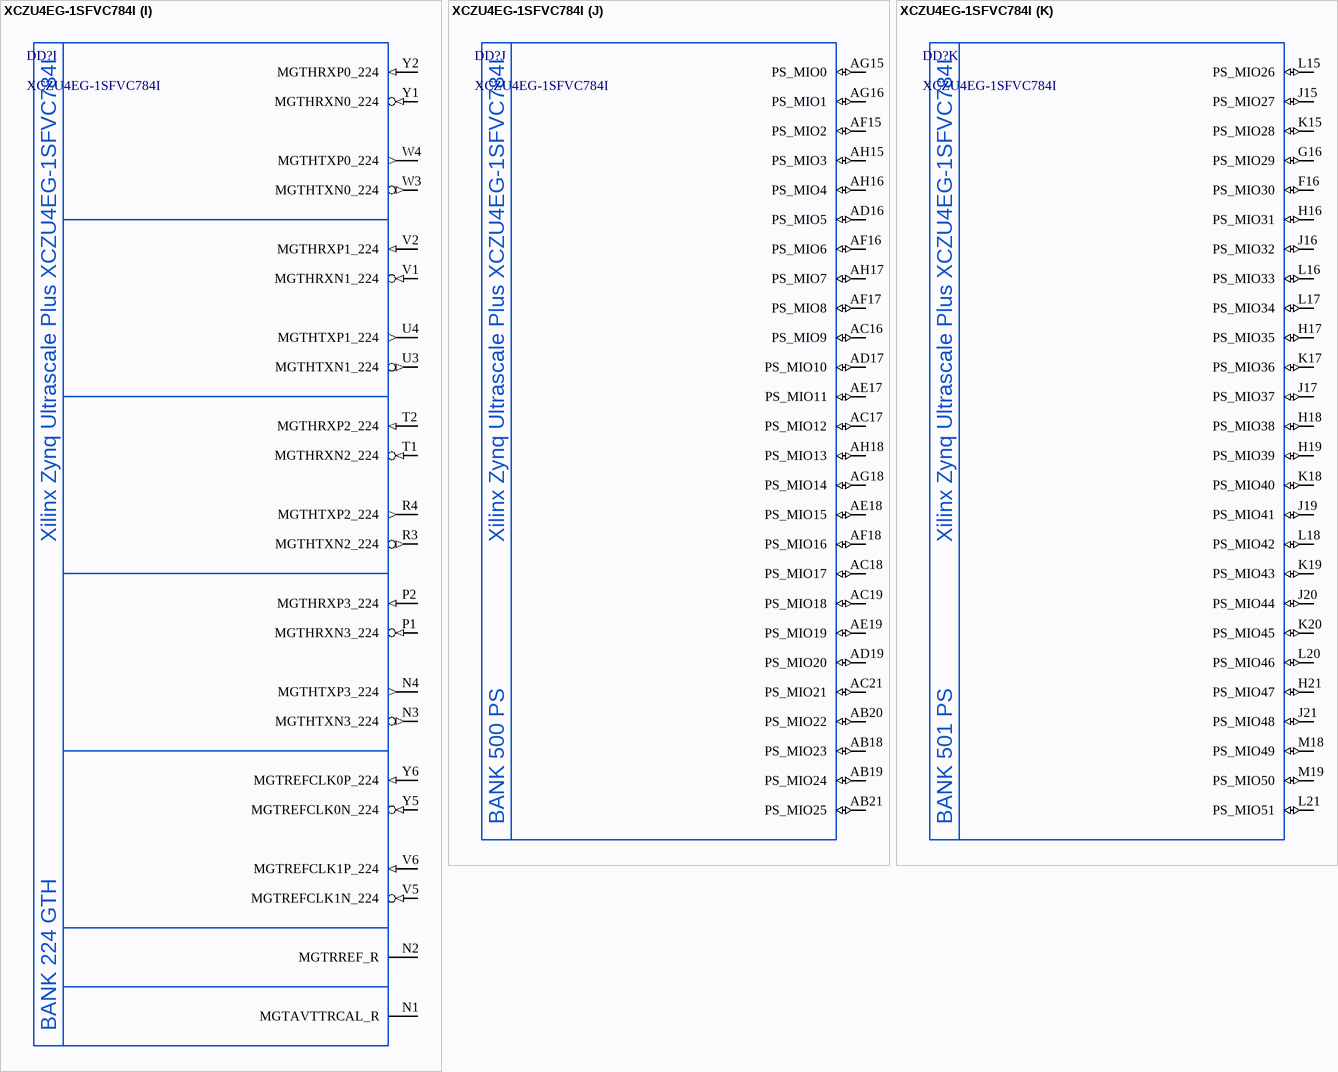
[diagram p73: symbol XCZU4EG-1SFVC784I]

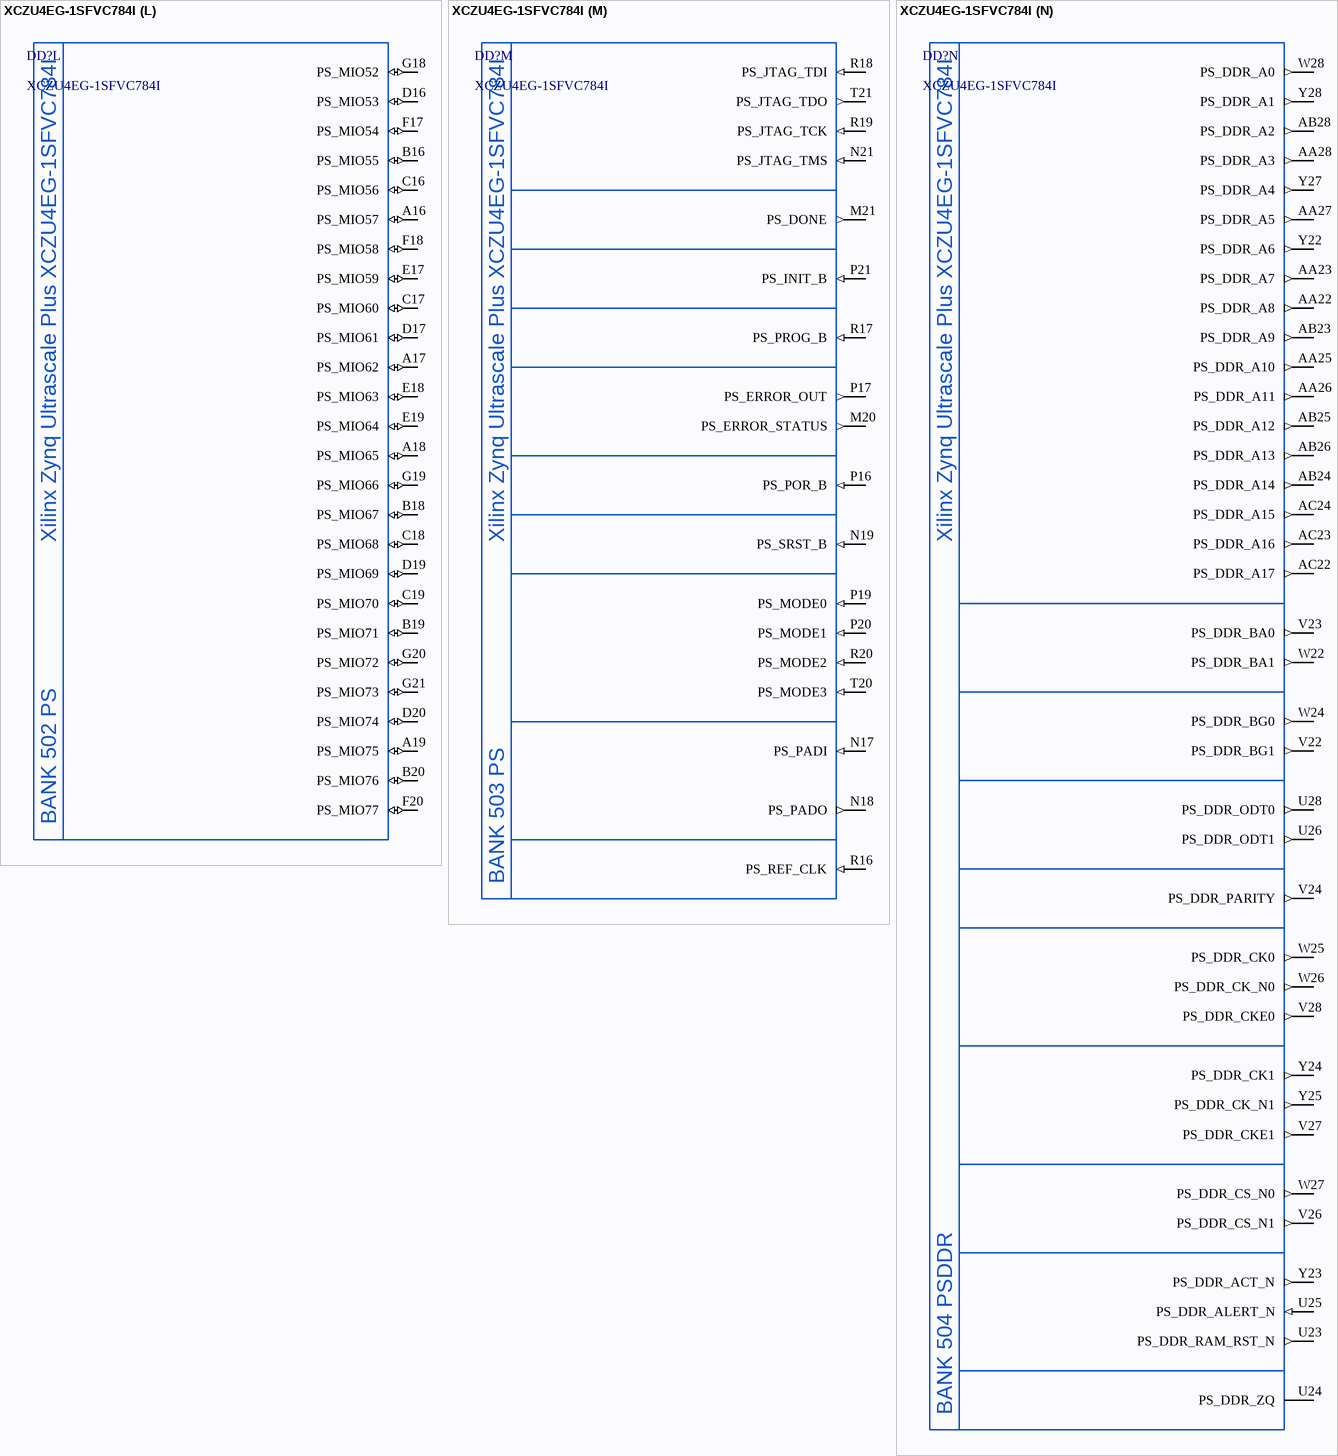
[diagram p74: symbol XCZU4EG-1SFVC784I]

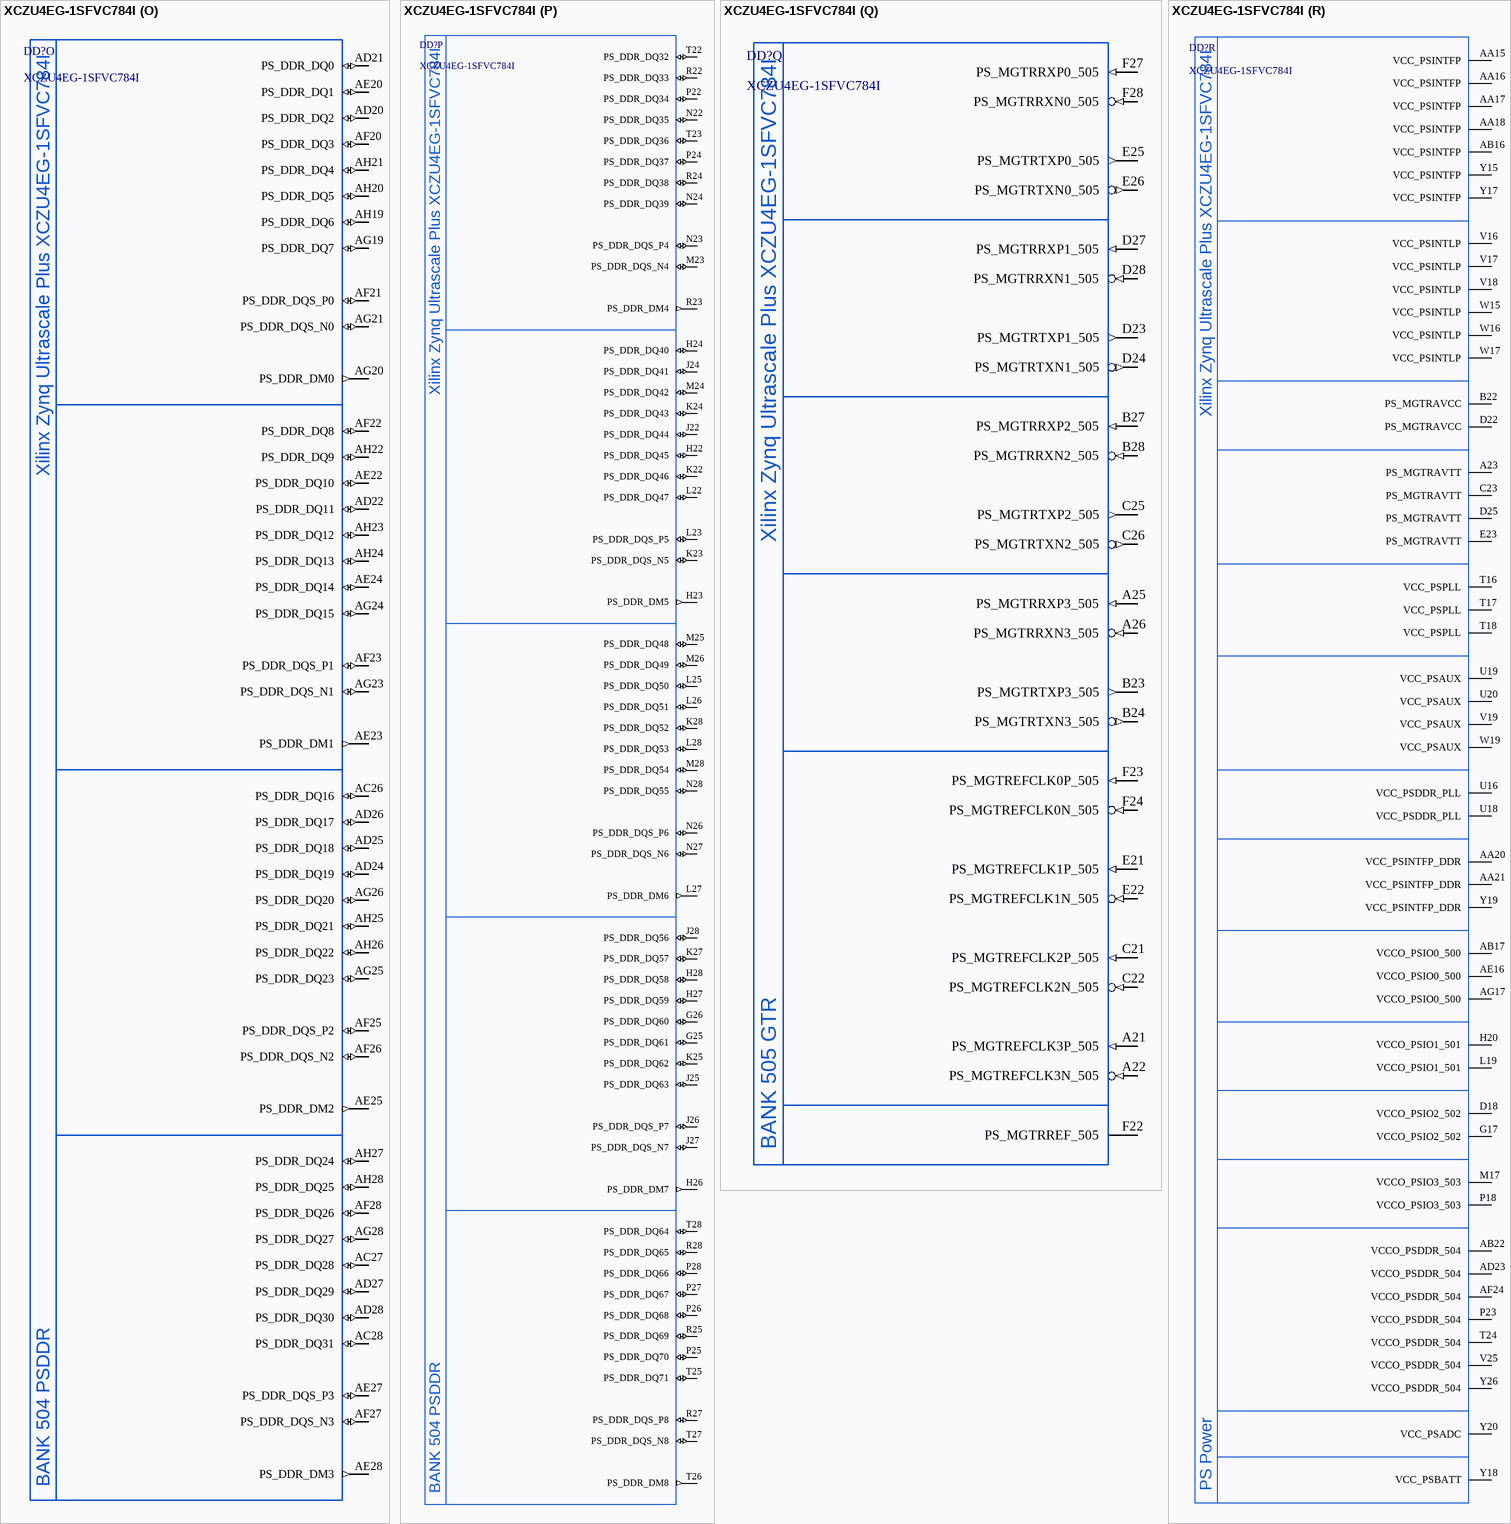
[diagram p75: symbol XCZU4EG-1SFVC784I]

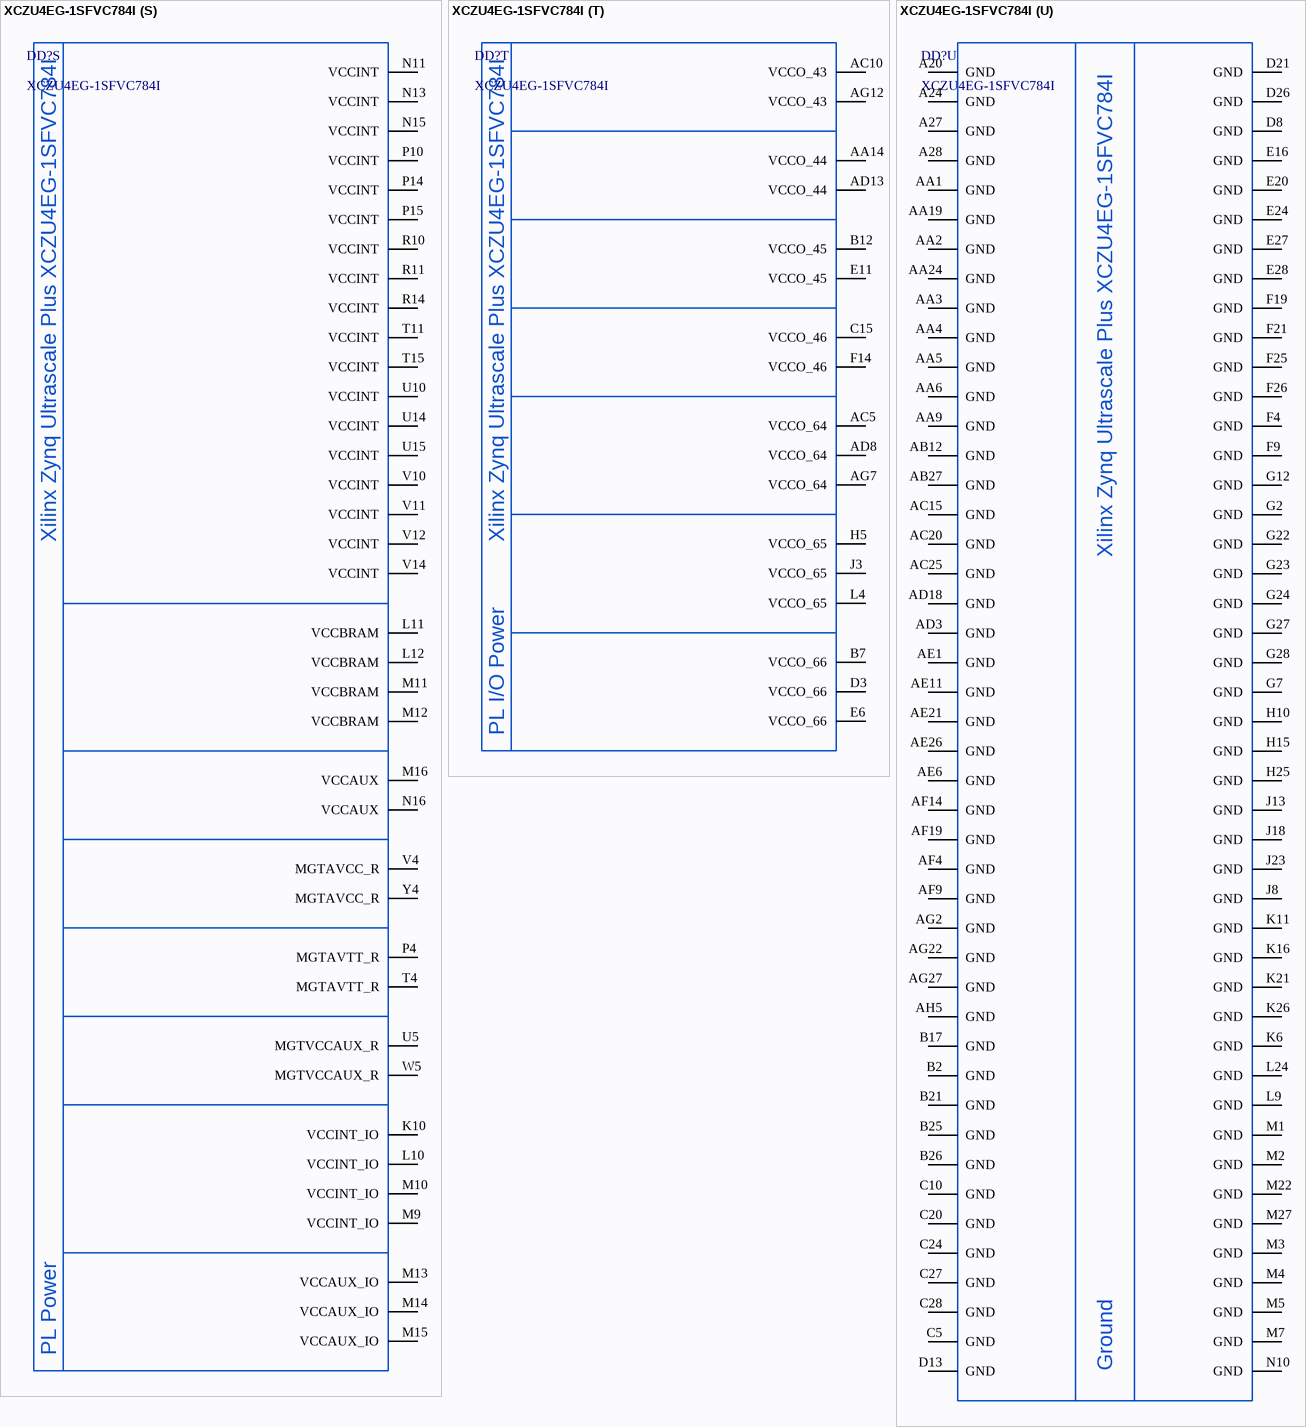
[diagram p76: symbol XCZU4EG-1SFVC784I]

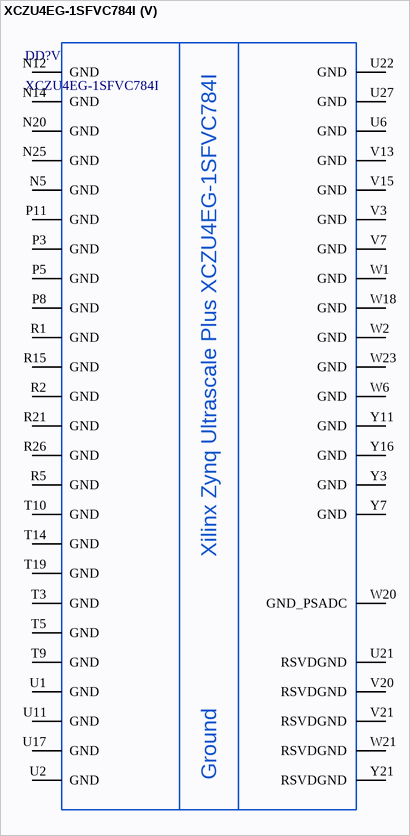
[diagram p77: symbol XCZU4EG-1SFVC784I]